# Altium integrated library texas.IntLib: 169 symbols (part 1 of 5)
Pins are listed as number, name and electrical type; pins without a type are passive.

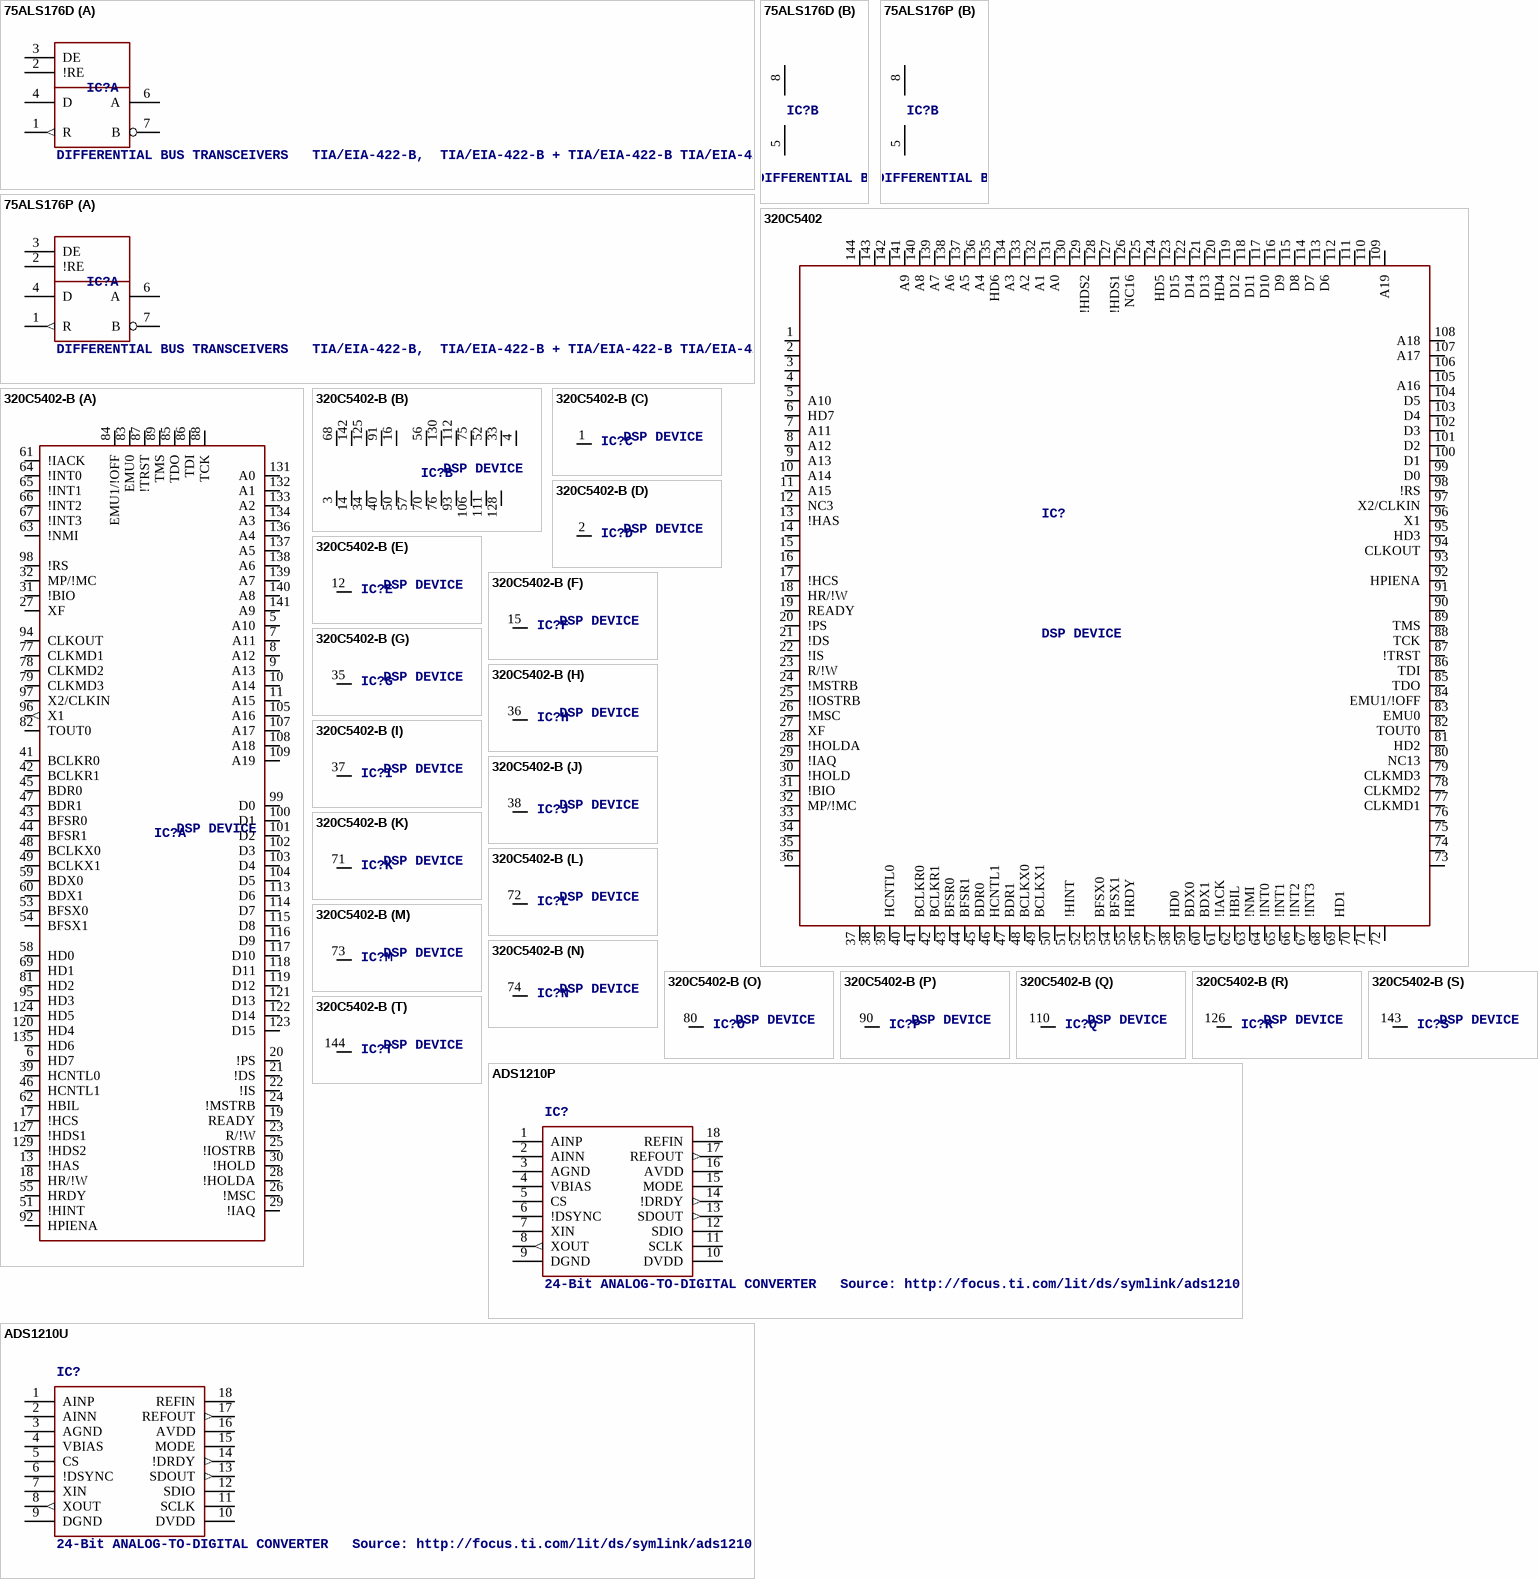
[diagram p0: symbols 75ALS176D to ADS1210U]

## 75ALS176D
designator IC?, comment DIFFERENTIAL BUS TRANSCEIVERS   TIA/EIA-422-B,  TIA/EIA-422-B + TIA/EIA-422-B TIA/EIA-422-B Operate at Data Rates up to 35 Mbaud Source: http://focus.ti.com/lit/ds/symlink/sn65als176.pdf
MPN: SN75ALS176D; MPN: SN75ALS176AD; MPN: SN75ALS176BD; MF: TEXAS INSTRUMENTS; OC_FARNELL: 9593020; OC_NEWARK: 08F8011; OC_FARNELL: 1410742; OC_NEWARK: 76C5099; OC_FARNELL: 9593012; OC_NEWARK: 35K0833
footprint SO-08
part A pins: 1 R (out), 2 !RE, 3 DE, 4 D, 6 A, 7 B
part B pins: 5 GND (power), 8 VCC (power)

## 75ALS176P
designator IC?, comment DIFFERENTIAL BUS TRANSCEIVERS   TIA/EIA-422-B,  TIA/EIA-422-B + TIA/EIA-422-B TIA/EIA-422-B Operate at Data Rates up to 35 Mbaud Source: http://focus.ti.com/lit/ds/symlink/sn65als176.pdf
MPN: SN75ALS176P; MF: TEXAS INSTRUMENTS; OC_FARNELL: 1103021; OC_NEWARK: 60K6915
footprint DIL08
part A pins: 1 R (out), 2 !RE, 3 DE, 4 D, 6 A, 7 B
part B pins: 5 GND (power), 8 VCC (power)

## 320C5402
designator IC?, comment DSP DEVICE
OC_FARNELL: unknown; OC_NEWARK: unknown
footprint PQFP144
pins: 1 NC1, 2 NC2, 3 VSS@1 (power), 4 DVDD@1 (power), 5 A10, 6 HD7, 7 A11, 8 A12, 9 A13, 10 A14, 11 A15, 12 NC3, 13 !HAS, 14 VSS@2 (power), 15 NC4, 16 CVDD@1 (power), 17 !HCS, 18 HR/!W, 19 READY, 20 !PS, 21 !DS, 22 !IS, 23 R/!W, 24 !MSTRB, 25 !IOSTRB, 26 !MSC, 27 XF, 28 !HOLDA, 29 !IAQ, 30 !HOLD, 31 !BIO, 32 MP/!MC, 33 DVDD@2 (power), 34 VSS@3 (power), 35 NC5, 36 NC6, 37 NC7, 38 NC8, 39 HCNTL0, 40 VSS@4 (power), 41 BCLKR0, 42 BCLKR1, 43 BFSR0, 44 BFSR1, 45 BDR0, 46 HCNTL1, 47 BDR1, 48 BCLKX0, 49 BCLKX1, 50 VSS@5 (power), 51 !HINT, 52 CVDD@2 (power), 53 BFSX0, 54 BFSX1, 55 HRDY, 56 DVDD@3 (power), 57 VSS@6 (power), 58 HD0, 59 BDX0, 60 BDX1, 61 !IACK, 62 HBIL, 63 !NMI, 64 !INT0, 65 !INT1, 66 !INT2, 67 !INT3, 68 CVDD@3 (power), 69 HD1, 70 VSS@7 (power), 71 NC9, 72 NC10, 73 NC11, 74 NC12, 75 DVDD@4 (power), 76 VSS@8 (power), 77 CLKMD1, 78 CLKMD2, 79 CLKMD3, 80 NC13, 81 HD2, 82 TOUT0, 83 EMU0, 84 EMU1/!OFF, 85 TDO, 86 TDI, 87 !TRST, 88 TCK, 89 TMS, 90 NC14, 91 CVDD@4 (power), 92 HPIENA, 93 VSS@9 (power), 94 CLKOUT, 95 HD3, 96 X1, 97 X2/CLKIN, 98 !RS, 99 D0, 100 D1, 101 D2, 102 D3, 103 D4, 104 D5, 105 A16, 106 VSS@10 (power), 107 A17, 108 A18, 109 A19, 110 NC15, 111 VSS@11 (power), 112 DVDD@5 (power), 113 D6, 114 D7, 115 D8, 116 D9, 117 D10, 118 D11, 119 D12, 120 HD4, 121 D13, 122 D14, 123 D15, 124 HD5, 125 CVDD@5 (power), 126 NC16, 127 !HDS1, 128 VSS@12 (power), 129 !HDS2, 130 DVDD@6 (power), 131 A0, 132 A1, 133 A2, 134 A3, 135 HD6, 136 A4, 137 A5, 138 A6, 139 A7, 140 A8, 141 A9, 142 CVDD@6 (power), 143 NC17, 144 NC18

## 320C5402-B
designator IC?, comment DSP DEVICE
OC_FARNELL: unknown; OC_NEWARK: unknown
footprint PQFP144
part A pins: 5 A10 (hiz), 6 HD7 (hiz), 7 A11 (hiz), 8 A12 (hiz), 9 A13 (hiz), 10 A14 (hiz), 11 A15 (hiz), 13 !HAS, 17 !HCS, 18 HR/!W, 19 READY, 20 !PS (hiz), 21 !DS (hiz), 22 !IS (hiz), 23 R/!W (hiz), 24 !MSTRB (hiz), 25 !IOSTRB (hiz), 26 !MSC (hiz), 27 XF (hiz), 28 !HOLDA (hiz), 29 !IAQ (hiz), 30 !HOLD, 31 !BIO, 32 MP/!MC, 39 HCNTL0, 41 BCLKR0 (hiz), 42 BCLKR1 (hiz), 43 BFSR0 (hiz), 44 BFSR1 (hiz), 45 BDR0, 46 HCNTL1, 47 BDR1, 48 BCLKX0 (hiz), 49 BCLKX1 (hiz), 51 !HINT (hiz), 53 BFSX0 (hiz), 54 BFSX1 (hiz), 55 HRDY (hiz), 58 HD0 (hiz), 59 BDX0 (hiz), 60 BDX1 (hiz), 61 !IACK (hiz), 62 HBIL, 63 !NMI, 64 !INT0, 65 !INT1, 66 !INT2, 67 !INT3, 69 HD1 (hiz), 77 CLKMD1, 78 CLKMD2, 79 CLKMD3, 81 HD2 (hiz), 82 TOUT0 (hiz), 83 EMU0 (hiz), 84 EMU1/!OFF (hiz), 85 TDO (hiz), 86 TDI, 87 !TRST, 88 TCK, 89 TMS, 92 HPIENA, 94 CLKOUT (hiz), 95 HD3 (hiz), 96 X1 (out), 97 X2/CLKIN, 98 !RS, 99 D0 (hiz), 100 D1 (hiz), 101 D2 (hiz), 102 D3 (hiz), 103 D4 (hiz), 104 D5 (hiz), 105 A16 (hiz), 107 A17 (hiz), 108 A18 (hiz), 109 A19 (hiz), 113 D6 (hiz), 114 D7 (hiz), 115 D8 (hiz), 116 D9 (hiz), 117 D10 (hiz), 118 D11 (hiz), 119 D12 (hiz), 120 HD4 (hiz), 121 D13 (hiz), 122 D14 (hiz), 123 D15 (hiz), 124 HD5 (hiz), 127 !HDS1, 129 !HDS2, 131 A0 (hiz), 132 A1 (hiz), 133 A2 (hiz), 134 A3 (hiz), 135 HD6 (hiz), 136 A4 (hiz), 137 A5 (hiz), 138 A6 (hiz), 139 A7 (hiz), 140 A8 (hiz), 141 A9 (hiz)
part B pins: 3 VSS@1 (power), 4 DVDD@1 (power), 14 VSS@2 (power), 16 CVDD@1 (power), 33 DVDD@2 (power), 34 VSS@3 (power), 40 VSS@4 (power), 50 VSS@5 (power), 52 CVDD@2 (power), 56 DVDD@3 (power), 57 VSS@6 (power), 68 CVDD@3 (power), 70 VSS@7 (power), 75 DVDD@4 (power), 76 VSS@8 (power), 91 CVDD@4 (power), 93 VSS@9 (power), 106 VSS@10 (power), 111 VSS@11 (power), 112 DVDD@5 (power), 125 CVDD@5 (power), 128 VSS@12 (power), 130 DVDD@6 (power), 142 CVDD@6 (power)
part C pins: 1 NC
part D pins: 2 NC
part E pins: 12 NC
part F pins: 15 NC
part G pins: 35 NC
part H pins: 36 NC
part I pins: 37 NC
part J pins: 38 NC
part K pins: 71 NC
part L pins: 72 NC
part M pins: 73 NC
part N pins: 74 NC
part O pins: 80 NC
part P pins: 90 NC
part Q pins: 110 NC
part R pins: 126 NC
part S pins: 143 NC
part T pins: 144 NC

## ADS1210P
designator IC?, comment 24-Bit ANALOG-TO-DIGITAL CONVERTER   Source: http://focus.ti.com/lit/ds/symlink/ads1210.pdf
MPN: ADS1210P; MF: TEXAS INSTRUMENTS; OC_FARNELL: 1312336; OC_NEWARK: 96K4580
footprint DIL18
pins: 1 AINP, 2 AINN, 3 AGND (power), 4 VBIAS, 5 CS, 6 !DSYNC, 7 XIN, 8 XOUT (out), 9 DGND (power), 10 DVDD (power), 11 SCLK, 12 SDIO, 13 SDOUT (out), 14 !DRDY (out), 15 MODE, 16 AVDD (power), 17 REFOUT (out), 18 REFIN

## ADS1210U
designator IC?, comment 24-Bit ANALOG-TO-DIGITAL CONVERTER   Source: http://focus.ti.com/lit/ds/symlink/ads1210.pdf
MPN: ADS1210U; MF: TEXAS INSTRUMENTS; OC_FARNELL: 1295983; OC_NEWARK: 74K3627
footprint SO-18DW
pins: 1 AINP, 2 AINN, 3 AGND (power), 4 VBIAS, 5 CS, 6 !DSYNC, 7 XIN, 8 XOUT (out), 9 DGND (power), 10 DVDD (power), 11 SCLK, 12 SDIO, 13 SDOUT (out), 14 !DRDY (out), 15 MODE, 16 AVDD (power), 17 REFOUT (out), 18 REFIN

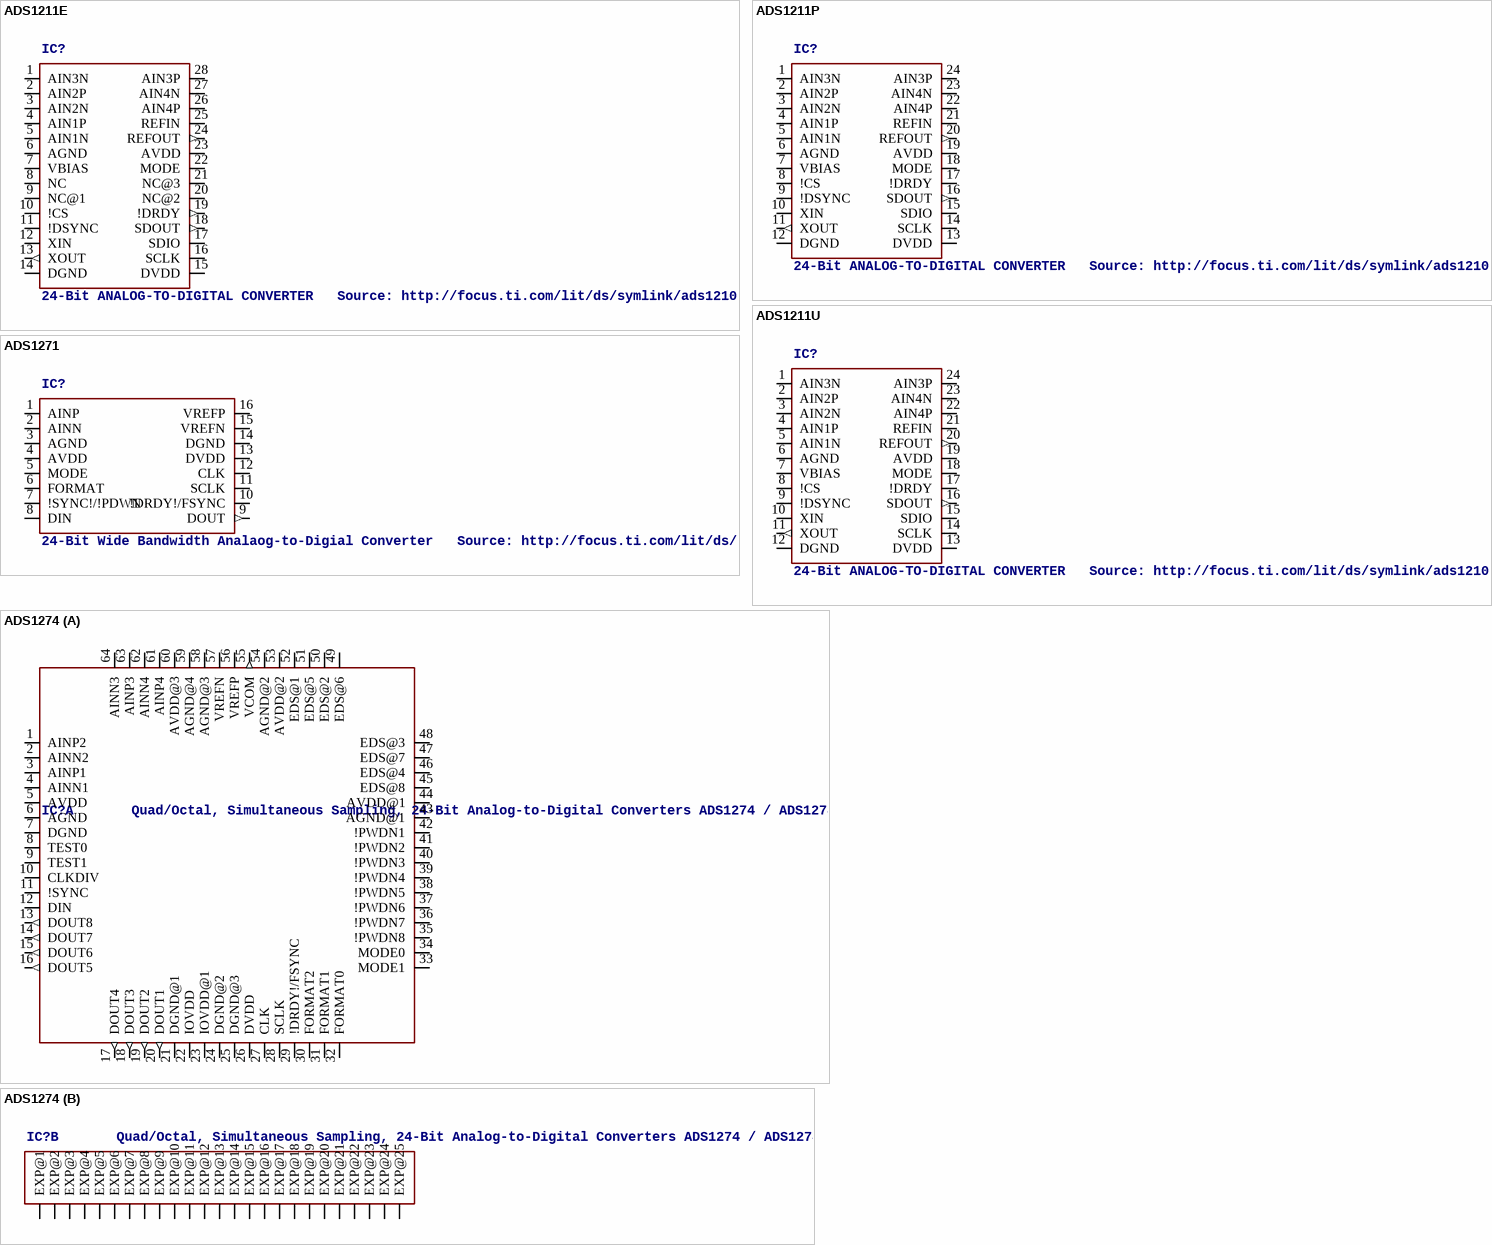
[diagram p1: symbols ADS1211E to ADS1274]

## ADS1211E
designator IC?, comment 24-Bit ANALOG-TO-DIGITAL CONVERTER   Source: http://focus.ti.com/lit/ds/symlink/ads1210.pdf
MPN: ADS1211E; MF: TEXAS INSTRUMENT CONNECTORS; OC_FARNELL: unknown; OC_NEWARK: 74C6976
footprint DB_R-PDSO-G28
pins: 1 AIN3N, 2 AIN2P, 3 AIN2N, 4 AIN1P, 5 AIN1N, 6 AGND (power), 7 VBIAS, 8 NC, 9 NC@1, 10 !CS, 11 !DSYNC, 12 XIN, 13 XOUT (out), 14 DGND (power), 15 DVDD (power), 16 SCLK, 17 SDIO, 18 SDOUT (out), 19 !DRDY (out), 20 NC@2, 21 NC@3, 22 MODE, 23 AVDD (power), 24 REFOUT (out), 25 REFIN, 26 AIN4P, 27 AIN4N, 28 AIN3P

## ADS1211P
designator IC?, comment 24-Bit ANALOG-TO-DIGITAL CONVERTER   Source: http://focus.ti.com/lit/ds/symlink/ads1210.pdf
MPN: ADS1211P; MF: TEXAS INSTRUMENTS; OC_FARNELL: 1219430; OC_NEWARK: 96K2329
footprint PDIP-T24
pins: 1 AIN3N, 2 AIN2P, 3 AIN2N, 4 AIN1P, 5 AIN1N, 6 AGND (power), 7 VBIAS, 8 !CS, 9 !DSYNC, 10 XIN, 11 XOUT (out), 12 DGND (power), 13 DVDD (power), 14 SCLK, 15 SDIO, 16 SDOUT (out), 17 !DRDY, 18 MODE, 19 AVDD (power), 20 REFOUT (out), 21 REFIN, 22 AIN4P, 23 AIN4N, 24 AIN3P

## ADS1211U
designator IC?, comment 24-Bit ANALOG-TO-DIGITAL CONVERTER   Source: http://focus.ti.com/lit/ds/symlink/ads1210.pdf
MPN: ADS1211U; MF: TEXAS INSTRUMENTS; OC_FARNELL: 9324070; OC_NEWARK: 35C1513
footprint PW_R-PDSO-G24
pins: 1 AIN3N, 2 AIN2P, 3 AIN2N, 4 AIN1P, 5 AIN1N, 6 AGND (power), 7 VBIAS, 8 !CS, 9 !DSYNC, 10 XIN, 11 XOUT (out), 12 DGND (power), 13 DVDD (power), 14 SCLK, 15 SDIO, 16 SDOUT (out), 17 !DRDY, 18 MODE, 19 AVDD (power), 20 REFOUT (out), 21 REFIN, 22 AIN4P, 23 AIN4N, 24 AIN3P

## ADS1271
designator IC?, comment 24-Bit Wide Bandwidth Analaog-to-Digial Converter   Source: http://focus.ti.com/lit/ds/symlink/ads1271.pdf
MPN: ADS1271IPWR; MF: TEXAS INSTRUMENT CONNECTORS; OC_FARNELL: 9968865; OC_NEWARK: 73J8186
footprint TSSOP16
pins: 1 AINP, 2 AINN, 3 AGND (power), 4 AVDD (power), 5 MODE, 6 FORMAT, 7 !SYNC!/!PDWN, 8 DIN, 9 DOUT (out), 10 !DRDY!/FSYNC, 11 SCLK, 12 CLK, 13 DVDD, 14 DGND, 15 VREFN, 16 VREFP

## ADS1274
designator IC?, comment Quad/Octal, Simultaneous Sampling, 24-Bit Analog-to-Digital Converters ADS1274 / ADS1278    Source: http://focus.ti.com/lit/ds/symlink/ads1274.pdf
MPN: ADS1274IPAPT; OC_FARNELL: 1603418; OC_NEWARK: 50M8809
footprint HTQFP-64-PAP
part A pins: 1 AINP2, 2 AINN2, 3 AINP1, 4 AINN1, 5 AVDD (power), 6 AGND (power), 7 DGND (power), 8 TEST0, 9 TEST1, 10 CLKDIV, 11 !SYNC, 12 DIN, 13 DOUT8 (out), 14 DOUT7 (out), 15 DOUT6 (out), 16 DOUT5 (out), 17 DOUT4 (out), 18 DOUT3 (out), 19 DOUT2 (out), 20 DOUT1 (out), 21 DGND@1 (power), 22 IOVDD (power), 23 IOVDD@1 (power), 24 DGND@2 (power), 25 DGND@3 (power), 26 DVDD (power), 27 CLK, 28 SCLK, 29 !DRDY!/FSYNC, 30 FORMAT2, 31 FORMAT1, 32 FORMAT0, 33 MODE1, 34 MODE0, 35 !PWDN8, 36 !PWDN7, 37 !PWDN6, 38 !PWDN5, 39 !PWDN4, 40 !PWDN3, 41 !PWDN2, 42 !PWDN1, 43 AGND@1 (power), 44 AVDD@1 (power), 45 EDS@8, 46 EDS@4, 47 EDS@7, 48 EDS@3, 49 EDS@6, 50 EDS@2, 51 EDS@5, 52 EDS@1, 53 AVDD@2 (power), 54 AGND@2 (power), 55 VCOM (out), 56 VREFP, 57 VREFN, 58 AGND@3 (power), 59 AGND@4 (power), 60 AVDD@3 (power), 61 AINP4, 62 AINN4, 63 AINP3, 64 AINN3
part B pins: EXP1 EXP@1, EXP2 EXP@2, EXP3 EXP@3, EXP4 EXP@4, EXP5 EXP@5, EXP6 EXP@6, EXP7 EXP@7, EXP8 EXP@8, EXP9 EXP@9, EXP10 EXP@10, EXP11 EXP@11, EXP12 EXP@12, EXP13 EXP@13, EXP14 EXP@14, EXP15 EXP@15, EXP16 EXP@16, EXP17 EXP@17, EXP18 EXP@18, EXP19 EXP@19, EXP20 EXP@20, EXP21 EXP@21, EXP22 EXP@22, EXP23 EXP@23, EXP24 EXP@24, EXP25 EXP@25

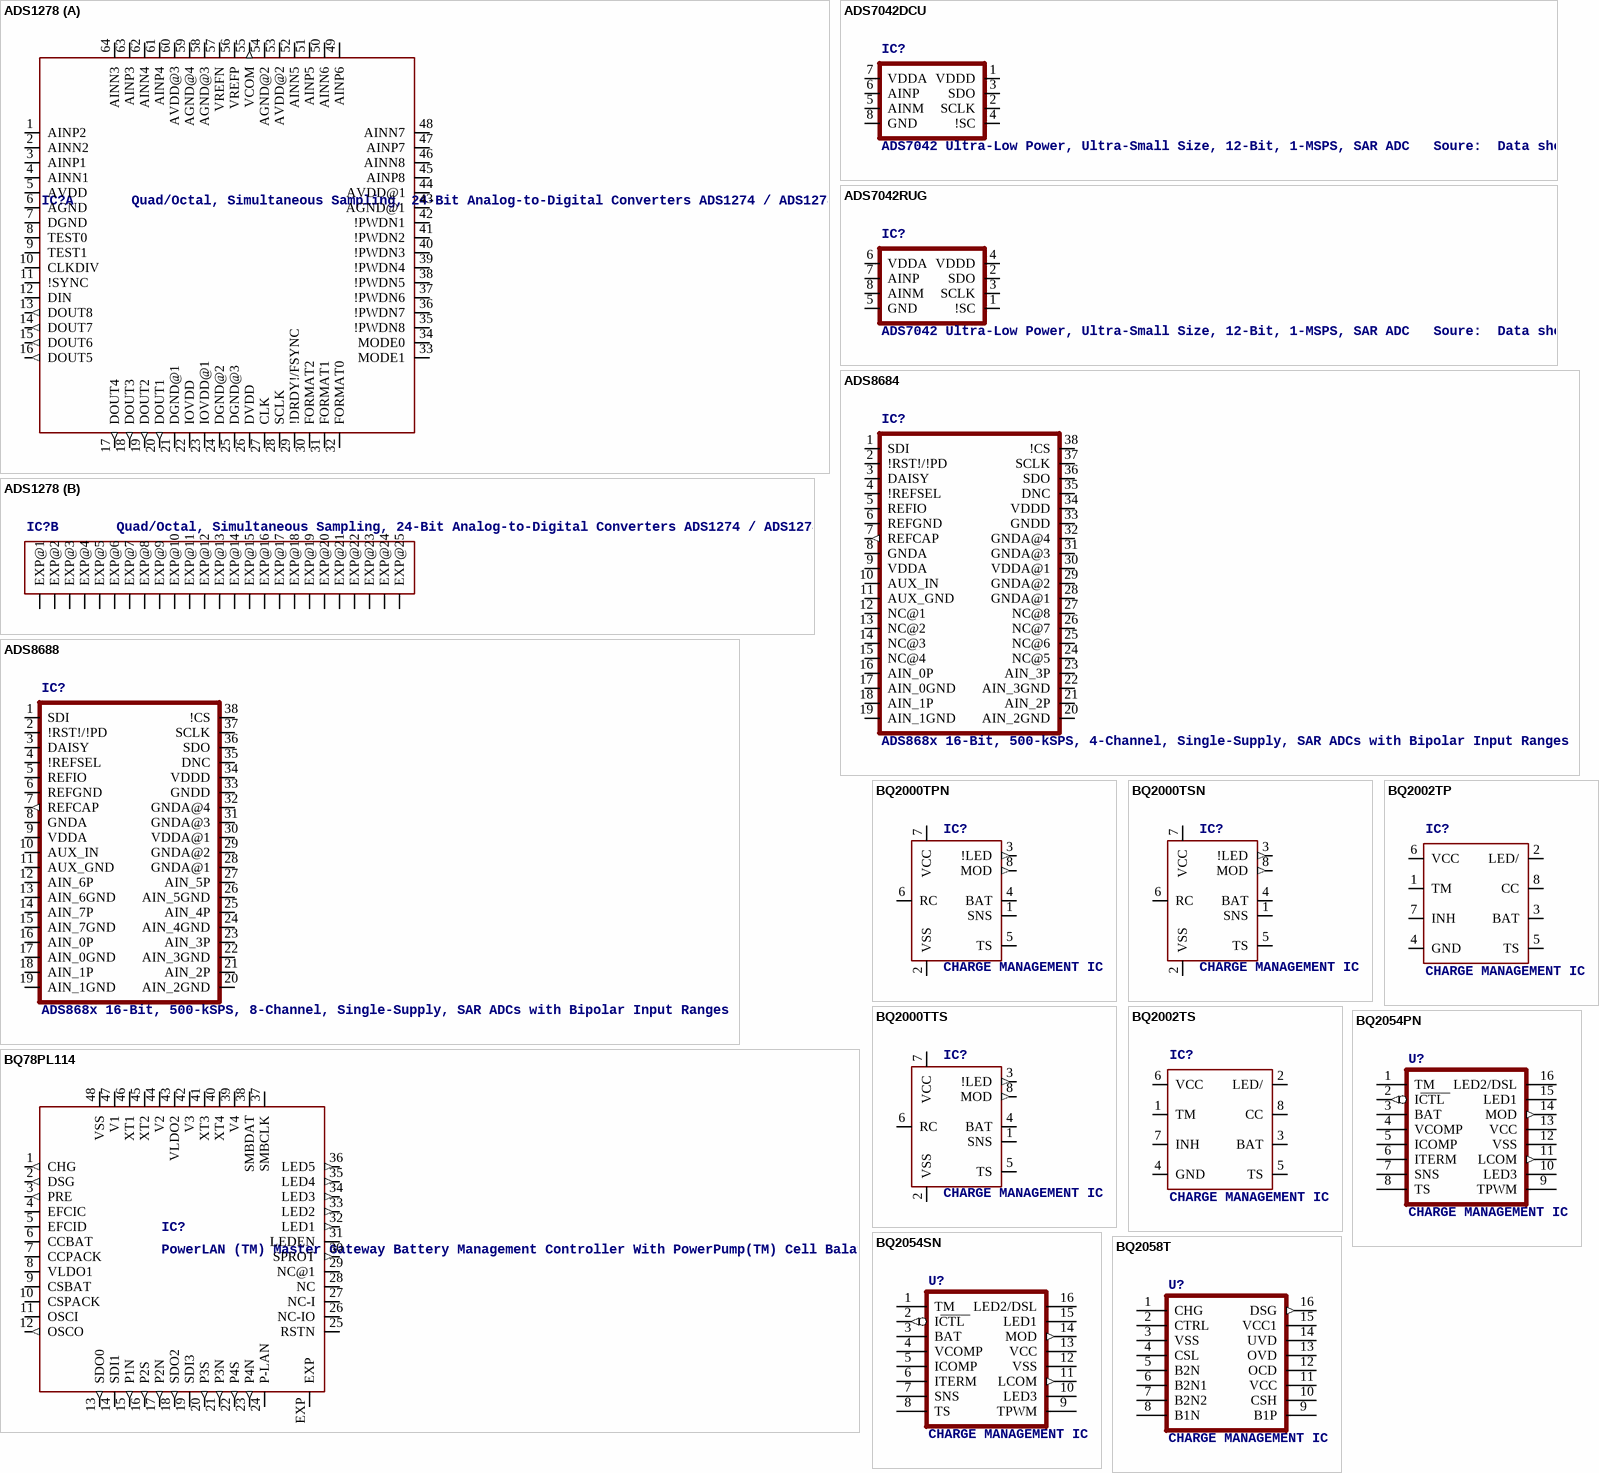
[diagram p2: symbols ADS1278 to BQ2058T]

## ADS1278
designator IC?, comment Quad/Octal, Simultaneous Sampling, 24-Bit Analog-to-Digital Converters ADS1274 / ADS1278    Auto generated by make-symbol-device-package-bsdl.ulp Rev. 29 Source: http://focus.ti.com/lit/ds/symlink/ads1274.pdf
MPN: ADS1278IPAPT; OC_FARNELL: 1603419; OC_NEWARK: 50M8811
footprint HTQFP-64-PAP
part A pins: 1 AINP2, 2 AINN2, 3 AINP1, 4 AINN1, 5 AVDD (power), 6 AGND (power), 7 DGND (power), 8 TEST0, 9 TEST1, 10 CLKDIV, 11 !SYNC, 12 DIN, 13 DOUT8 (out), 14 DOUT7 (out), 15 DOUT6 (out), 16 DOUT5 (out), 17 DOUT4 (out), 18 DOUT3 (out), 19 DOUT2 (out), 20 DOUT1 (out), 21 DGND@1 (power), 22 IOVDD (power), 23 IOVDD@1 (power), 24 DGND@2 (power), 25 DGND@3 (power), 26 DVDD (power), 27 CLK, 28 SCLK, 29 !DRDY!/FSYNC, 30 FORMAT2, 31 FORMAT1, 32 FORMAT0, 33 MODE1, 34 MODE0, 35 !PWDN8, 36 !PWDN7, 37 !PWDN6, 38 !PWDN5, 39 !PWDN4, 40 !PWDN3, 41 !PWDN2, 42 !PWDN1, 43 AGND@1 (power), 44 AVDD@1 (power), 45 AINP8, 46 AINN8, 47 AINP7, 48 AINN7, 49 AINP6, 50 AINN6, 51 AINP5, 52 AINN5, 53 AVDD@2 (power), 54 AGND@2 (power), 55 VCOM (out), 56 VREFP, 57 VREFN, 58 AGND@3 (power), 59 AGND@4 (power), 60 AVDD@3 (power), 61 AINP4, 62 AINN4, 63 AINP3, 64 AINN3
part B pins: EXP1 EXP@1, EXP2 EXP@2, EXP3 EXP@3, EXP4 EXP@4, EXP5 EXP@5, EXP6 EXP@6, EXP7 EXP@7, EXP8 EXP@8, EXP9 EXP@9, EXP10 EXP@10, EXP11 EXP@11, EXP12 EXP@12, EXP13 EXP@13, EXP14 EXP@14, EXP15 EXP@15, EXP16 EXP@16, EXP17 EXP@17, EXP18 EXP@18, EXP19 EXP@19, EXP20 EXP@20, EXP21 EXP@21, EXP22 EXP@22, EXP23 EXP@23, EXP24 EXP@24, EXP25 EXP@25

## ADS7042DCU
designator IC?, comment ADS7042 Ultra-Low Power, Ultra-Small Size, 12-Bit, 1-MSPS, SAR ADC   Soure:  Data sheet
footprint DCU_(R-PDSO-G8)
pins: 1 VDDD (power), 2 SCLK, 3 SDO, 4 !SC, 5 AINM, 6 AINP, 7 VDDA (power), 8 GND (power)

## ADS7042RUG
designator IC?, comment ADS7042 Ultra-Low Power, Ultra-Small Size, 12-Bit, 1-MSPS, SAR ADC   Soure:  Data sheet
footprint RUG_(R-PQFP-N8)
pins: 1 !SC, 2 SDO, 3 SCLK, 4 VDDD (power), 5 GND (power), 6 VDDA (power), 7 AINP, 8 AINM

## ADS8684
designator IC?, comment ADS868x 16-Bit, 500-kSPS, 4-Channel, Single-Supply, SAR ADCs with Bipolar Input Ranges   Source:  Data sheet
footprint DBT_R-PDSO-G38
pins: 1 SDI, 2 !RST!/!PD, 3 DAISY, 4 !REFSEL, 5 REFIO, 6 REFGND (power), 7 REFCAP (out), 8 GNDA (power), 9 VDDA (power), 10 AUX_IN, 11 AUX_GND, 12 NC@1, 13 NC@2, 14 NC@3, 15 NC@4, 16 AIN_0P, 17 AIN_0GND, 18 AIN_1P, 19 AIN_1GND, 20 AIN_2GND, 21 AIN_2P, 22 AIN_3GND, 23 AIN_3P, 24 NC@5, 25 NC@6, 26 NC@7, 27 NC@8, 28 GNDA@1 (power), 29 GNDA@2 (power), 30 VDDA@1 (power), 31 GNDA@3 (power), 32 GNDA@4 (power), 33 GNDD (power), 34 VDDD (power), 35 DNC, 36 SDO, 37 SCLK, 38 !CS

## ADS8688
designator IC?, comment ADS868x 16-Bit, 500-kSPS, 8-Channel, Single-Supply, SAR ADCs with Bipolar Input Ranges   Source:  Data sheet
footprint DBT_R-PDSO-G38
pins: 1 SDI, 2 !RST!/!PD, 3 DAISY, 4 !REFSEL, 5 REFIO, 6 REFGND (power), 7 REFCAP (out), 8 GNDA (power), 9 VDDA (power), 10 AUX_IN, 11 AUX_GND, 12 AIN_6P, 13 AIN_6GND, 14 AIN_7P, 15 AIN_7GND, 16 AIN_0P, 17 AIN_0GND, 18 AIN_1P, 19 AIN_1GND, 20 AIN_2GND, 21 AIN_2P, 22 AIN_3GND, 23 AIN_3P, 24 AIN_4GND, 25 AIN_4P, 26 AIN_5GND, 27 AIN_5P, 28 GNDA@1 (power), 29 GNDA@2 (power), 30 VDDA@1 (power), 31 GNDA@3 (power), 32 GNDA@4 (power), 33 GNDD (power), 34 VDDD (power), 35 DNC, 36 SDO, 37 SCLK, 38 !CS

## BQ78PL114
designator IC?, comment PowerLAN (TM) Master Gateway Battery Management Controller With PowerPump(TM) Cell Balancing Technology   Auto generated by make-symbol-device-package-bsdl.ulp Rev. 35 Source:  Datasheet
MPN: BQ78PL114RGZR; OC_FARNELL: 1684746; OC_NEWARK: 12P8640
footprint P-QFP48-7X7MM
pins: 1 CHG (out), 2 DSG (out), 3 PRE (out), 4 EFCIC, 5 EFCID, 6 CCBAT, 7 CCPACK, 8 VLDO1 (power), 9 CSBAT, 10 CSPACK, 11 OSCI, 12 OSCO (out), 13 SDO0 (out), 14 SDI1, 15 P1N (out), 16 P2S (out), 17 P2N (out), 18 SDO2 (out), 19 SDI3, 20 P3S (out), 21 P3N (out), 22 P4S (out), 23 P4N (out), 24 P-LAN, 25 RSTN, 26 NC-IO, 27 NC-I, 28 NC, 29 NC@1, 30 SPROT (out), 31 LEDEN, 32 LED1 (out), 33 LED2 (out), 34 LED3 (out), 35 LED4 (out), 36 LED5 (out), 37 SMBCLK, 38 SMBDAT, 39 V4, 40 XT4, 41 XT3, 42 V3, 43 VLDO2 (power), 44 V2, 45 XT2, 46 XT1, 47 V1, 48 VSS, EXP

## BQ2000TPN
designator IC?, comment CHARGE MANAGEMENT IC
MPN: BQ2000TPN-B5; MF: TEXAS INSTRUMENT CONNECTORS; OC_FARNELL: unknown; OC_NEWARK: 74C7505
footprint DIL08
pins: 1 SNS, 2 VSS (power), 3 !LED (out), 4 BAT, 5 TS, 6 RC, 7 VCC, 8 MOD (out)

## BQ2000TSN
designator IC?, comment CHARGE MANAGEMENT IC
MPN: BQ2000TSN-B5; MF: TEXAS INSTRUMENT CONNECTORS; OC_FARNELL: 1212295; OC_NEWARK: 74C7508
footprint SO-08
pins: 1 SNS, 2 VSS (power), 3 !LED (out), 4 BAT, 5 TS, 6 RC, 7 VCC, 8 MOD (out)

## BQ2000TTS
designator IC?, comment CHARGE MANAGEMENT IC
OC_FARNELL: unknown; OC_NEWARK: unknown
footprint TSSOP8
pins: 1 SNS, 2 VSS (power), 3 !LED (out), 4 BAT, 5 TS, 6 RC, 7 VCC, 8 MOD (out)

## BQ2002TP
designator IC?, comment CHARGE MANAGEMENT IC
MPN: BQ2002TPN; MF: TEXAS INSTRUMENT CONNECTORS; OC_FARNELL: 8409668; OC_NEWARK: 74C7526
footprint DIL08
pins: 1 TM, 2 LED/ (oc), 3 BAT, 4 GND (power), 5 TS, 6 VCC (power), 7 INH, 8 CC (oc)

## BQ2002TS
designator IC?, comment CHARGE MANAGEMENT IC
MPN: BQ2002TSN; MF: TEXAS INSTRUMENTS; OC_FARNELL: 1564910; OC_NEWARK: 74C7527
footprint SO-08
pins: 1 TM, 2 LED/ (oc), 3 BAT, 4 GND (power), 5 TS, 6 VCC (power), 7 INH, 8 CC (oc)

## BQ2054PN
designator U?, comment CHARGE MANAGEMENT IC
MPN: BQ2054PN; MF: TEXAS INSTRUMENT CONNECTORS; OC_FARNELL: 8407789; OC_NEWARK: 74C7582
footprint DIL16
pins: 1 TM, 2 ICTL (out), 3 BAT, 4 VCOMP, 5 ICOMP, 6 ITERM, 7 SNS, 8 TS, 9 TPWM, 10 LED3 (hiz), 11 LCOM (out), 12 VSS (power), 13 VCC (power), 14 MOD (out), 15 LED1 (hiz), 16 LED2/DSL (hiz)

## BQ2054SN
designator U?, comment CHARGE MANAGEMENT IC
MPN: BQ2054SN; MF: TEXAS INSTRUMENT CONNECTORS; OC_FARNELL: unknown; OC_NEWARK: 74C7583
footprint SO-16
pins: 1 TM, 2 ICTL (out), 3 BAT, 4 VCOMP, 5 ICOMP, 6 ITERM, 7 SNS, 8 TS, 9 TPWM, 10 LED3 (hiz), 11 LCOM (out), 12 VSS (power), 13 VCC (power), 14 MOD (out), 15 LED1 (hiz), 16 LED2/DSL (hiz)

## BQ2058T
designator U?, comment CHARGE MANAGEMENT IC
OC_FARNELL: unknown; OC_NEWARK: unknown
footprint SO-16
pins: 1 CHG (hiz), 2 CTRL, 3 VSS (power), 4 CSL, 5 B2N, 6 B2N1, 7 B2N2, 8 B1N, 9 B1P, 10 CSH, 11 VCC (power), 12 OCD, 13 OVD, 14 UVD, 15 VCC1 (power), 16 DSG (out)

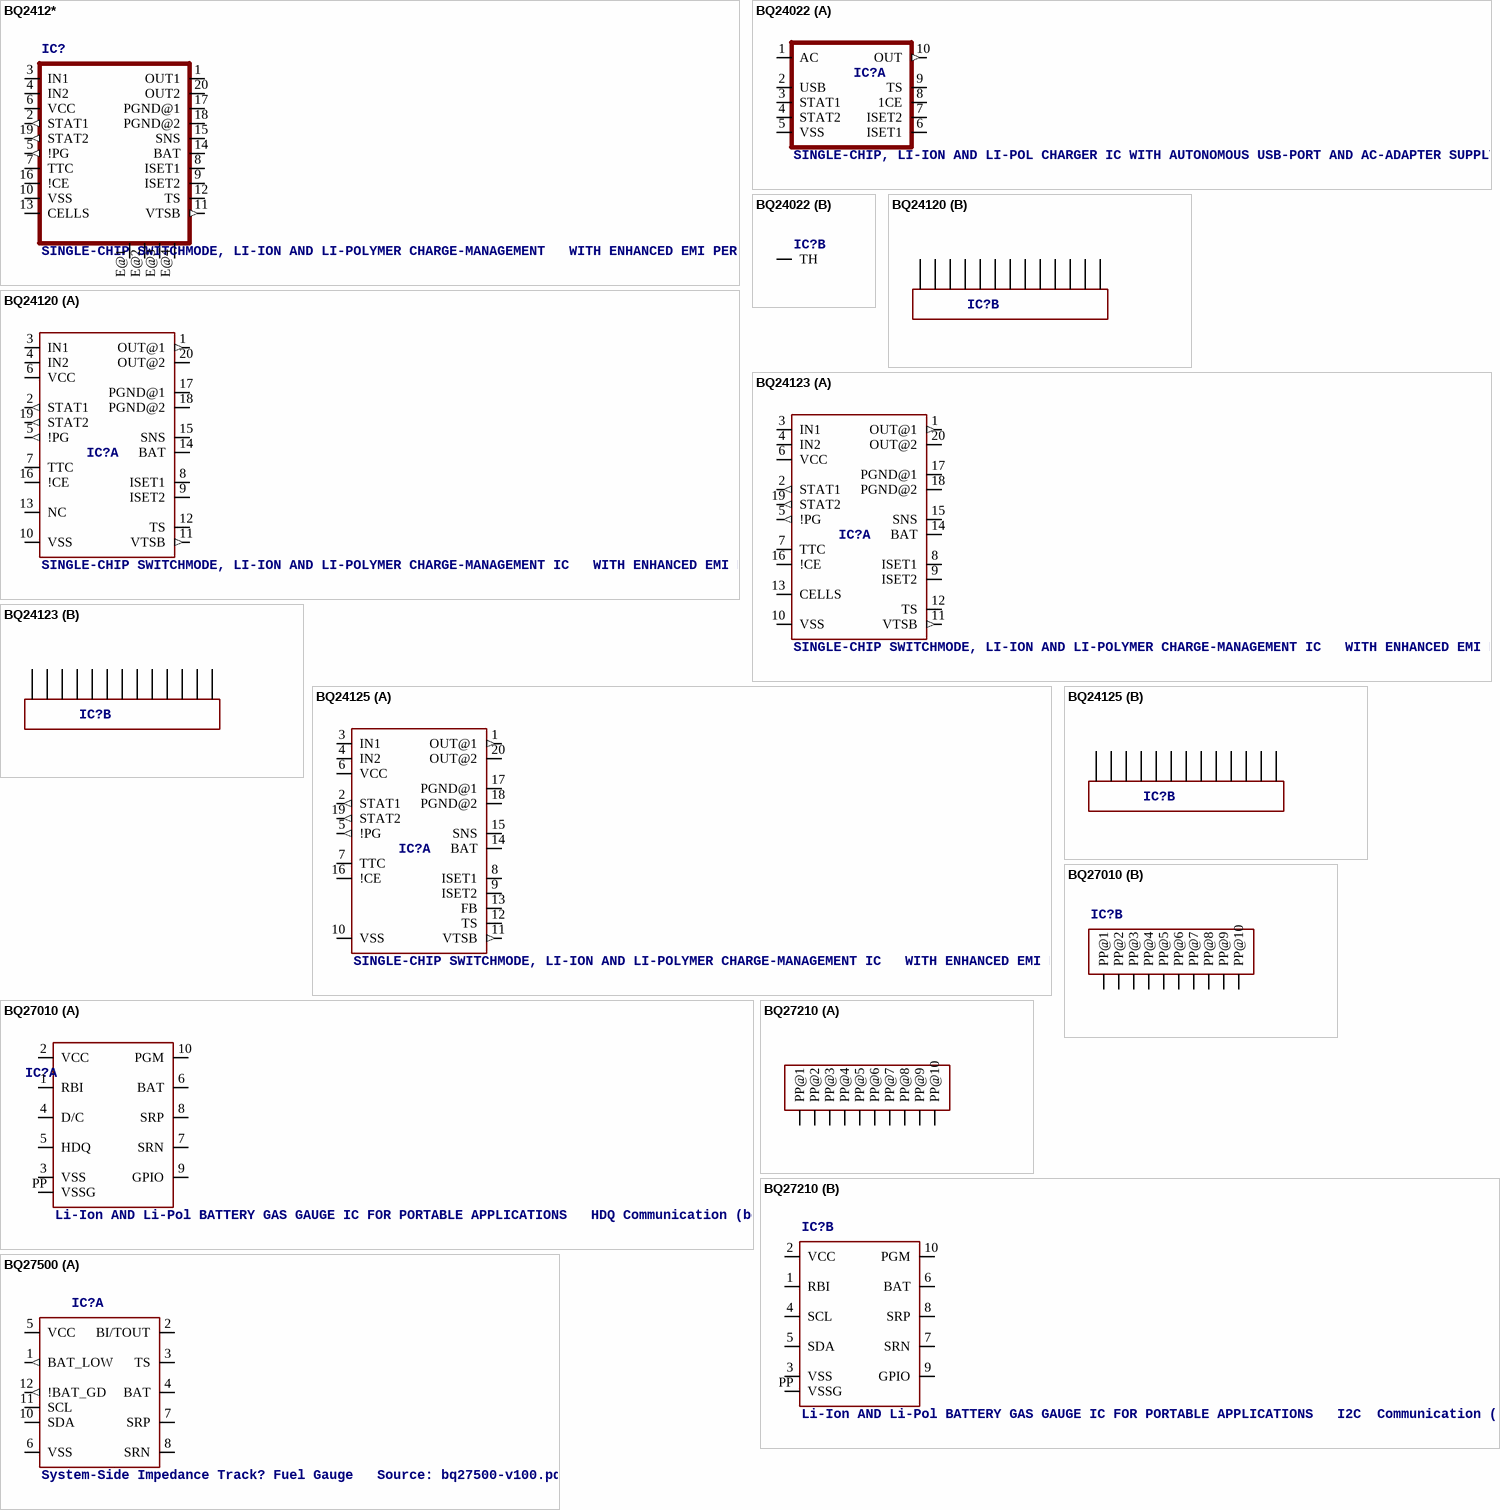
[diagram p3: symbols BQ2412* to BQ27500]

## BQ2412*
designator IC?, comment SINGLE-CHIP SWITCHMODE, LI-ION AND LI-POLYMER CHARGE-MANAGEMENT   WITH ENHANCED EMI PERFORMANCE(bqSWITCHER TM)   Source: http://focus.ti.com/lit/ds/symlink/bq24120.pdf
MPN: BQ24120RHLTG4; MPN: BQ24123RHLT; OC_FARNELL: 1230453; OC_NEWARK: 12M9386; OC_FARNELL: 1407131; OC_NEWARK: 84K0851
footprint R-PQFP-N20
pins: 1 OUT1, 2 STAT1 (out), 3 IN1, 4 IN2, 5 !PG (out), 6 VCC, 7 TTC, 8 ISET1, 9 ISET2, 10 VSS, 11 VTSB (out), 12 TS, 13 CELLS, 14 BAT, 15 SNS, 16 !CE, 17 PGND@1, 18 PGND@2, 19 STAT2 (out), 20 OUT2, E@1 EXP@1, E@2 EXP@2, E@3 EXP@3, E@4 EXP@4

## BQ24022
designator IC?, comment SINGLE-CHIP, LI-ION AND LI-POL CHARGER IC WITH AUTONOMOUS USB-PORT AND AC-ADAPTER SUPPLY MANAGEMENT (bqTINY™-II)   Source: bq24022.pdf (www.ti.com)
footprint DRC-S-PVSON-N10
part A pins: 1 AC, 2 USB, 3 STAT1, 4 STAT2, 5 VSS (power), 6 ISET1, 7 ISET2, 8 1CE, 9 TS, 10 OUT (out)
part B pins: TH

## BQ24120
designator IC?, comment SINGLE-CHIP SWITCHMODE, LI-ION AND LI-POLYMER CHARGE-MANAGEMENT IC   WITH ENHANCED EMI PERFORMANCE(bqSWITCHER) Source: www.ti.com .. TI-bq24125.pdf
MPN: BQ24120RHLTG4; OC_FARNELL: 1230453; OC_NEWARK: 12M9386
footprint QFN20_3,5X4,5
part A pins: 1 OUT@1 (out), 2 STAT1 (out), 3 IN1, 4 IN2, 5 !PG (out), 6 VCC, 7 TTC, 8 ISET1, 9 ISET2, 10 VSS (power), 11 VTSB (out), 12 TS, 13 NC, 14 BAT, 15 SNS, 16 !CE, 17 PGND@1, 18 PGND@2, 19 STAT2 (out), 20 OUT@2
part B pins: EXP 7, EXP@1 1, EXP@2 2, EXP@3 3, EXP@4 4, EXP@5 5, EXP@6 6, EXP@7 8, EXP@8 9, EXP@9 10, EXP@10 11, EXP@11 12, EXP@12 13

## BQ24123
designator IC?, comment SINGLE-CHIP SWITCHMODE, LI-ION AND LI-POLYMER CHARGE-MANAGEMENT IC   WITH ENHANCED EMI PERFORMANCE(bqSWITCHER) Source: www.ti.com .. TI-bq24125.pdf
MPN: BQ24123RHLT; OC_FARNELL: 1407131; OC_NEWARK: 84K0851
footprint QFN20_3,5X4,5
part A pins: 1 OUT@1 (out), 2 STAT1 (out), 3 IN1, 4 IN2, 5 !PG (out), 6 VCC, 7 TTC, 8 ISET1, 9 ISET2, 10 VSS (power), 11 VTSB (out), 12 TS, 13 CELLS, 14 BAT, 15 SNS, 16 !CE, 17 PGND@1, 18 PGND@2, 19 STAT2 (out), 20 OUT@2
part B pins: EXP 7, EXP@1 1, EXP@2 2, EXP@3 3, EXP@4 4, EXP@5 5, EXP@6 6, EXP@7 8, EXP@8 9, EXP@9 10, EXP@10 11, EXP@11 12, EXP@12 13

## BQ24125
designator IC?, comment SINGLE-CHIP SWITCHMODE, LI-ION AND LI-POLYMER CHARGE-MANAGEMENT IC   WITH ENHANCED EMI PERFORMANCE(bqSWITCHER) Source: www.ti.com .. TI-bq24125.pdf
MPN: BQ24125RHLR; OC_FARNELL: 1536712; OC_NEWARK: 71M2021
footprint QFN20_3,5X4,5
part A pins: 1 OUT@1 (out), 2 STAT1 (out), 3 IN1, 4 IN2, 5 !PG (out), 6 VCC, 7 TTC, 8 ISET1, 9 ISET2, 10 VSS (power), 11 VTSB (out), 12 TS, 13 FB, 14 BAT, 15 SNS, 16 !CE, 17 PGND@1, 18 PGND@2, 19 STAT2 (out), 20 OUT@2
part B pins: EXP 7, EXP@1 1, EXP@2 2, EXP@3 3, EXP@4 4, EXP@5 5, EXP@6 6, EXP@7 8, EXP@8 9, EXP@9 10, EXP@10 11, EXP@11 12, EXP@12 13

## BQ27010
designator IC?, comment Li-Ion AND Li-Pol BATTERY GAS GAUGE IC FOR PORTABLE APPLICATIONS   HDQ Communication (bqJUNIOR) Source: www.ti.com .. bq27010.pdf
MPN: BQ27010DRKR; OC_FARNELL: unknown; OC_NEWARK: 02M9376
footprint DRK_S-PDSO-N10
part A pins: 1 RBI, 2 VCC (power), 3 VSS (power), 4 D/C, 5 HDQ, 6 BAT, 7 SRN, 8 SRP, 9 GPIO, 10 PGM, PP VSSG (power)
part B pins: PP@1 (power), PP@2 (power), PP@3 (power), PP@4 (power), PP@5 (power), PP@6 (power), PP@7 (power), PP@8 (power), PP@9 (power), PP@10 (power)

## BQ27210
designator IC?, comment Li-Ion AND Li-Pol BATTERY GAS GAUGE IC FOR PORTABLE APPLICATIONS   I2C  Communication (bqJUNIOR) Source: www.ti.com .. bq27010.pdf
MPN: BQ27210DRKR; OC_FARNELL: 1534540; OC_NEWARK: 30M3431
footprint DRK_S-PDSO-N10
part A pins: PP@1 (power), PP@2 (power), PP@3 (power), PP@4 (power), PP@5 (power), PP@6 (power), PP@7 (power), PP@8 (power), PP@9 (power), PP@10 (power)
part B pins: 1 RBI, 2 VCC, 3 VSS, 4 SCL, 5 SDA, 6 BAT, 7 SRN, 8 SRP, 9 GPIO, 10 PGM, PP VSSG

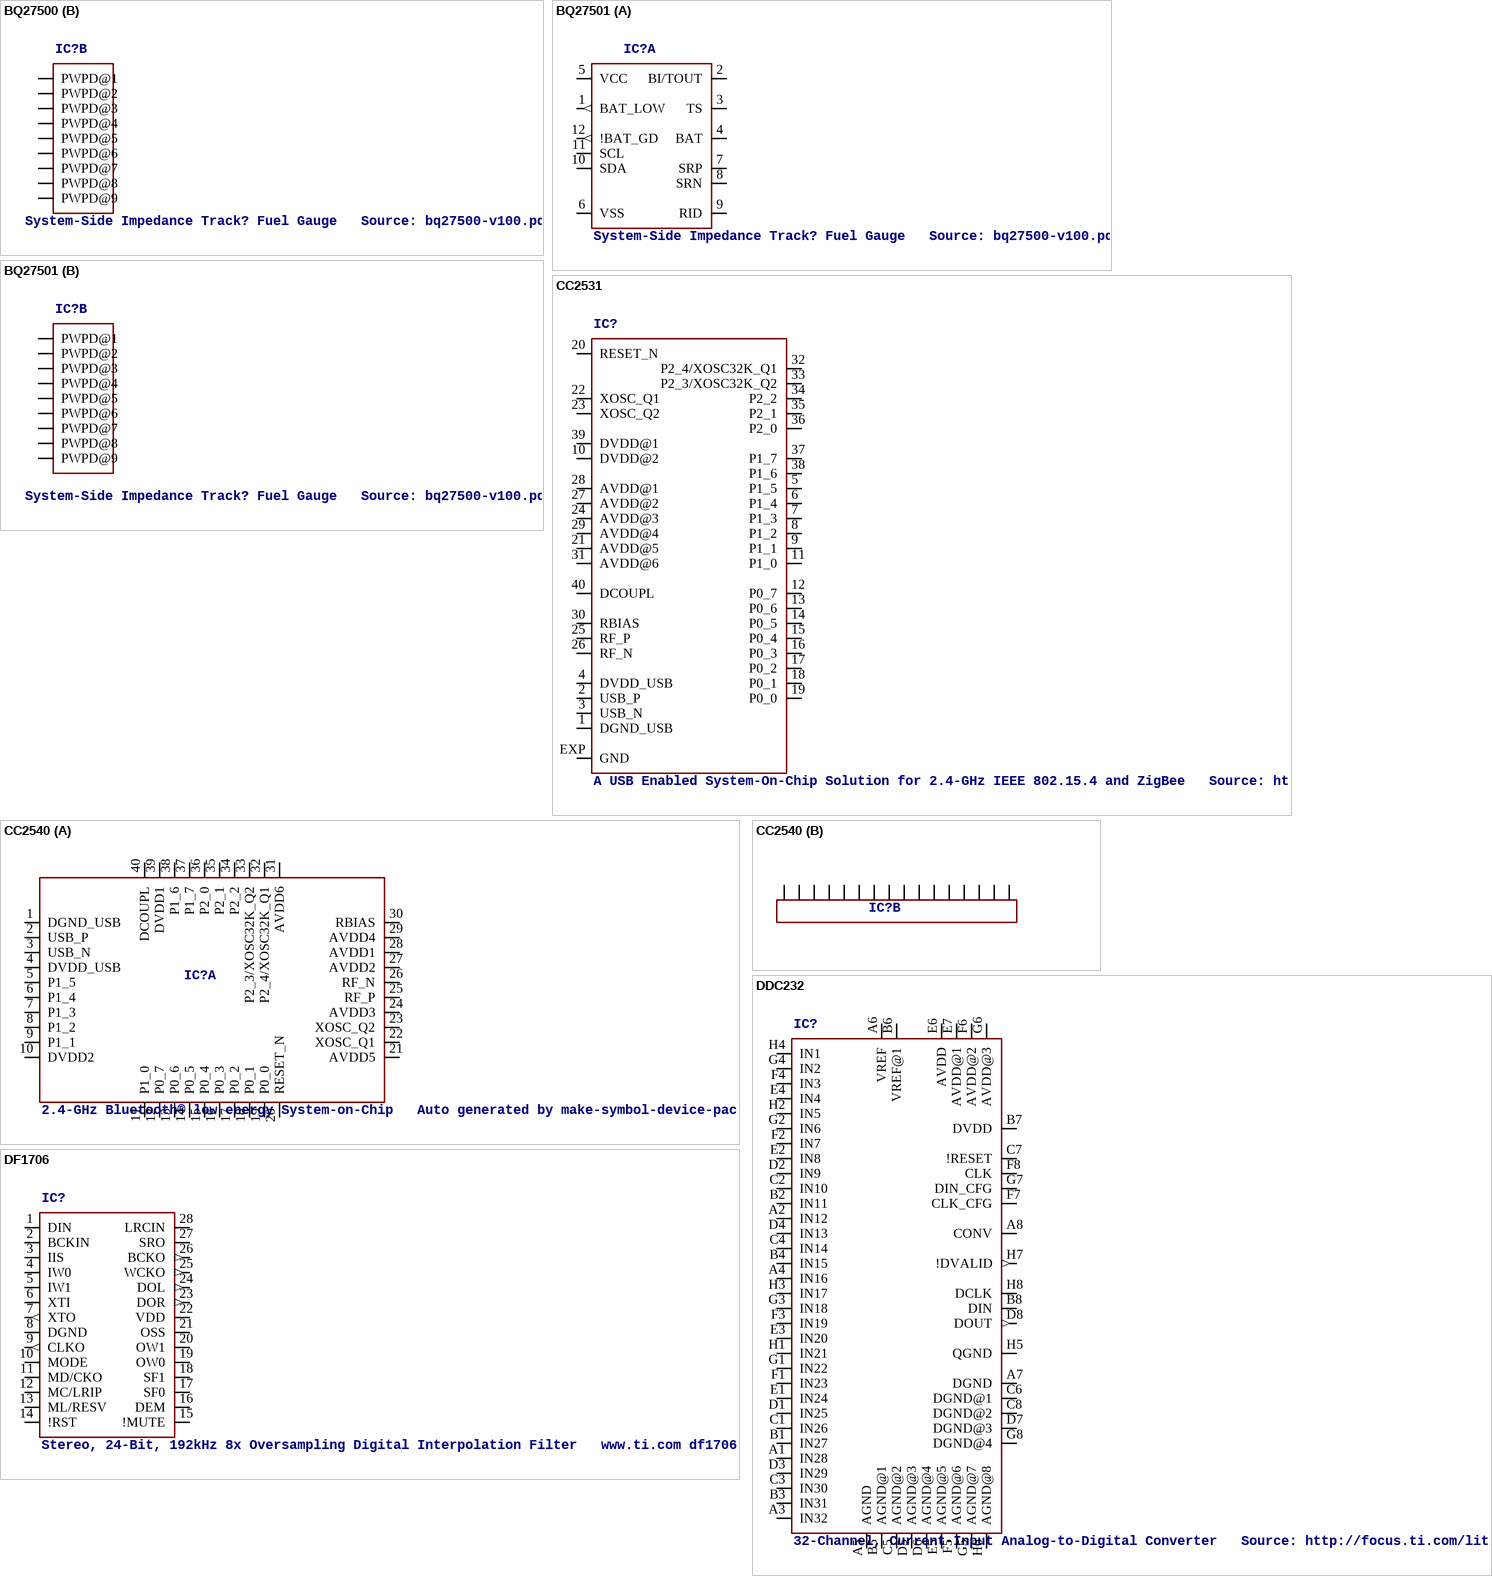
[diagram p4: symbols BQ27500 to DF1706]

## BQ27500
designator IC?, comment System-Side Impedance Track? Fuel Gauge   Source: bq27500-v100.pdf
MPN: BQ27500DRZR; OC_FARNELL: 1561320; OC_NEWARK: 84M8746
footprint DRZ
part A pins: 1 BAT_LOW (out), 2 BI/TOUT, 3 TS, 4 BAT, 5 VCC (power), 6 VSS (power), 7 SRP, 8 SRN, 9 NC, 10 SDA, 11 SCL, 12 !BAT_GD (out)
part B pins: EXP@1 PWPD@1 (power), EXP@2 PWPD@2 (power), EXP@3 PWPD@3 (power), EXP@4 PWPD@4 (power), EXP@5 PWPD@5 (power), EXP@6 PWPD@6 (power), EXP@7 PWPD@7 (power), EXP@8 PWPD@8 (power), EXP@9 PWPD@9 (power)

## BQ27501
designator IC?, comment System-Side Impedance Track? Fuel Gauge   Source: bq27500-v100.pdf
MPN: BQ27501DRZT; OC_FARNELL: 1710789; OC_NEWARK: 50P9379
footprint DRZ
part A pins: 1 BAT_LOW (out), 2 BI/TOUT, 3 TS, 4 BAT, 5 VCC (power), 6 VSS (power), 7 SRP, 8 SRN, 9 RID, 10 SDA, 11 SCL, 12 !BAT_GD (out)
part B pins: EXP@1 PWPD@1 (power), EXP@2 PWPD@2 (power), EXP@3 PWPD@3 (power), EXP@4 PWPD@4 (power), EXP@5 PWPD@5 (power), EXP@6 PWPD@6 (power), EXP@7 PWPD@7 (power), EXP@8 PWPD@8 (power), EXP@9 PWPD@9 (power)

## CC2531
designator IC?, comment A USB Enabled System-On-Chip Solution for 2.4-GHz IEEE 802.15.4 and ZigBee   Source: http://focus.ti.com/lit/ds/symlink/cc2531.pdf
MPN: CC2531F256RHAT; OC_FARNELL: 1776351; OC_NEWARK: 34R2713
footprint RHA_S-PVQFN-N40
pins: 1 DGND_USB (power), 2 USB_P, 3 USB_N, 4 DVDD_USB (power), 5 P1_5, 6 P1_4, 7 P1_3, 8 P1_2, 9 P1_1, 10 DVDD@2 (power), 11 P1_0, 12 P0_7, 13 P0_6, 14 P0_5, 15 P0_4, 16 P0_3, 17 P0_2, 18 P0_1, 19 P0_0, 20 RESET_N, 21 AVDD@5 (power), 22 XOSC_Q1, 23 XOSC_Q2, 24 AVDD@3 (power), 25 RF_P, 26 RF_N, 27 AVDD@2 (power), 28 AVDD@1 (power), 29 AVDD@4 (power), 30 RBIAS, 31 AVDD@6 (power), 32 P2_4/XOSC32K_Q1, 33 P2_3/XOSC32K_Q2, 34 P2_2, 35 P2_1, 36 P2_0, 37 P1_7, 38 P1_6, 39 DVDD@1 (power), 40 DCOUPL (power), EXP GND

## CC2540
designator IC?, comment 2.4-GHz Bluetooth® low energy System-on-Chip   Auto generated by make-symbol-device-package-bsdl.ulp Rev. 39 Source: cc2540.txt
footprint QFN40-6X6
part A pins: 1 DGND_USB (power), 2 USB_P, 3 USB_N, 4 DVDD_USB (power), 5 P1_5, 6 P1_4, 7 P1_3, 8 P1_2, 9 P1_1, 10 DVDD2 (power), 11 P1_0, 12 P0_7, 13 P0_6, 14 P0_5, 15 P0_4, 16 P0_3, 17 P0_2, 18 P0_1, 19 P0_0, 20 RESET_N, 21 AVDD5 (power), 22 XOSC_Q1, 23 XOSC_Q2, 24 AVDD3 (power), 25 RF_P, 26 RF_N, 27 AVDD2 (power), 28 AVDD1 (power), 29 AVDD4 (power), 30 RBIAS, 31 AVDD6 (power), 32 P2_4/XOSC32K_Q1, 33 P2_3/XOSC32K_Q2, 34 P2_2, 35 P2_1, 36 P2_0, 37 P1_7, 38 P1_6, 39 DVDD1 (power), 40 DCOUPL (power)
part B pins: EXP@1 EXP16@1, EXP@2 EXP16@2, EXP@3 EXP16@3, EXP@4 EXP16@4, EXP@5 EXP16@5, EXP@6 EXP16@6, EXP@7 EXP16@7, EXP@8 EXP16@8, EXP@9 EXP16@9, EXP@10 EXP16@10, EXP@11 EXP16@11, EXP@12 EXP16@12, EXP@13 EXP16@13, EXP@14 EXP16@14, EXP@15 EXP16@15, EXP@16 EXP16@16

## DDC232
designator IC?, comment 32-Channel, Current-Input Analog-to-Digital Converter   Source: http://focus.ti.com/lit/ds/symlink/ddc232.pdf
MPN: DDC232CGXGR; OC_FARNELL: unknown; OC_NEWARK: 18M7216
footprint PBGA-N64
pins: A1 IN28, A2 IN12, A3 IN32, A4 IN16, A5 AGND (power), A6 VREF, A7 DGND (power), A8 CONV, B1 IN27, B2 IN11, B3 IN31, B4 IN15, B5 AGND@1 (power), B6 VREF@1, B7 DVDD (power), B8 DIN, C1 IN26, C2 IN10, C3 IN30, C4 IN14, C5 AGND@2 (power), C6 DGND@1 (power), C7 !RESET, C8 DGND@2 (power), D1 IN25, D2 IN9, D3 IN29, D4 IN13, D5 AGND@3 (power), D6 AGND@4 (power), D7 DGND@3 (power), D8 DOUT (out), E1 IN24, E2 IN8, E3 IN20, E4 IN4, E5 AGND@5 (power), E6 AVDD (power), E7 AVDD@1 (power), F1 IN23, F2 IN7, F3 IN19, F4 IN3, F5 AGND@6 (power), F6 AVDD@2 (power), F7 CLK_CFG, F8 CLK, G1 IN22, G2 IN6, G3 IN18, G4 IN2, G5 AGND@7 (power), G6 AVDD@3 (power), G7 DIN_CFG, G8 DGND@4 (power), H1 IN21, H2 IN5, H3 IN17, H4 IN1, H5 QGND (power), H6 AGND@8 (power), H7 !DVALID (out), H8 DCLK

## DF1706
designator IC?, comment Stereo, 24-Bit, 192kHz 8x Oversampling Digital Interpolation Filter   www.ti.com df1706.pdf
MPN: DF1706EG4; OC_FARNELL: unknown; OC_NEWARK: 66K1929
footprint SSOP28DB
pins: 1 DIN, 2 BCKIN, 3 IIS, 4 IW0, 5 IW1, 6 XTI, 7 XTO (out), 8 DGND (power), 9 CLKO (out), 10 MODE, 11 MD/CKO, 12 MC/LRIP, 13 ML/RESV, 14 !RST, 15 !MUTE, 16 DEM, 17 SF0, 18 SF1, 19 OW0, 20 OW1, 21 OSS, 22 VDD (power), 23 DOR (out), 24 DOL (out), 25 WCKO (out), 26 BCKO (out), 27 SRO, 28 LRCIN

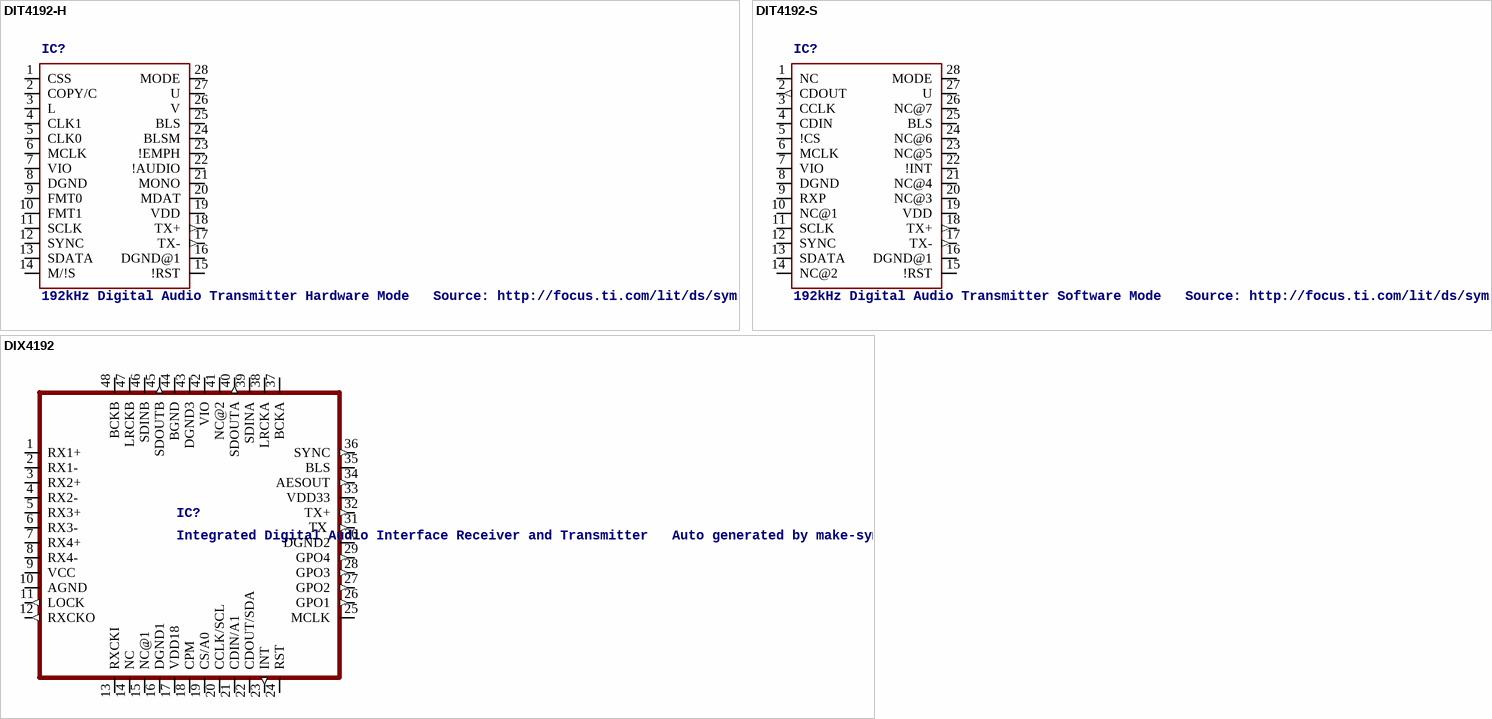
[diagram p5: symbols DIT4192-H to DIX4192]

## DIT4192-H
designator IC?, comment 192kHz Digital Audio Transmitter Hardware Mode   Source: http://focus.ti.com/lit/ds/symlink/dit4192.pdf
MPN: DIT4192IPW; MF: TEXAS INSTRUMENTS; OC_FARNELL: 7455057; OC_NEWARK: 74C9511
footprint PW_R-PDSO-G28
pins: 1 CSS, 2 COPY/C, 3 L, 4 CLK1, 5 CLK0, 6 MCLK, 7 VIO (power), 8 DGND (power), 9 FMT0, 10 FMT1, 11 SCLK, 12 SYNC, 13 SDATA, 14 M/!S, 15 !RST, 16 DGND@1 (power), 17 TX- (out), 18 TX+ (out), 19 VDD (power), 20 MDAT, 21 MONO, 22 !AUDIO, 23 !EMPH, 24 BLSM, 25 BLS, 26 V, 27 U, 28 MODE

## DIT4192-S
designator IC?, comment 192kHz Digital Audio Transmitter Software Mode   Source: http://focus.ti.com/lit/ds/symlink/dit4192.pdf
MPN: DIT4192IPW; MF: TEXAS INSTRUMENTS; OC_FARNELL: 7455057; OC_NEWARK: 74C9511
footprint PW_R-PDSO-G28
pins: 1 NC, 2 CDOUT (out), 3 CCLK, 4 CDIN, 5 !CS, 6 MCLK, 7 VIO (power), 8 DGND (power), 9 RXP, 10 NC@1, 11 SCLK, 12 SYNC, 13 SDATA, 14 NC@2, 15 !RST, 16 DGND@1 (power), 17 TX- (out), 18 TX+ (out), 19 VDD (power), 20 NC@3, 21 NC@4, 22 !INT (oc), 23 NC@5, 24 NC@6, 25 BLS, 26 NC@7, 27 U, 28 MODE

## DIX4192
designator IC?, comment Integrated Digital Audio Interface Receiver and Transmitter   Auto generated by make-symbol-device-package-bsdl.ulp Rev. 29 Source: http://focus.ti.com/lit/ds/symlink/dix4192.pdf
MPN: DIX4192IPFBG4; OC_FARNELL: 1390700; OC_NEWARK: 61M5849
footprint S-PQFP-G48
pins: 1 RX1+, 2 RX1-, 3 RX2+, 4 RX2-, 5 RX3+, 6 RX3-, 7 RX4+, 8 RX4-, 9 VCC (power), 10 AGND (power), 11 LOCK (out), 12 RXCKO (out), 13 RXCKI, 14 NC, 15 NC@1, 16 DGND1 (power), 17 VDD18 (power), 18 CPM, 19 CS/A0, 20 CCLK/SCL, 21 CDIN/A1, 22 CDOUT/SDA, 23 INT (out), 24 RST, 25 MCLK, 26 GPO1 (out), 27 GPO2 (out), 28 GPO3 (out), 29 GPO4 (out), 30 DGND2 (power), 31 TX (out), 32 TX+ (out), 33 VDD33 (power), 34 AESOUT (out), 35 BLS, 36 SYNC (out), 37 BCKA, 38 LRCKA, 39 SDINA, 40 SDOUTA (out), 41 NC@2, 42 VIO (power), 43 DGND3 (power), 44 BGND (power), 45 SDOUTB (out), 46 SDINB, 47 LRCKB, 48 BCKB

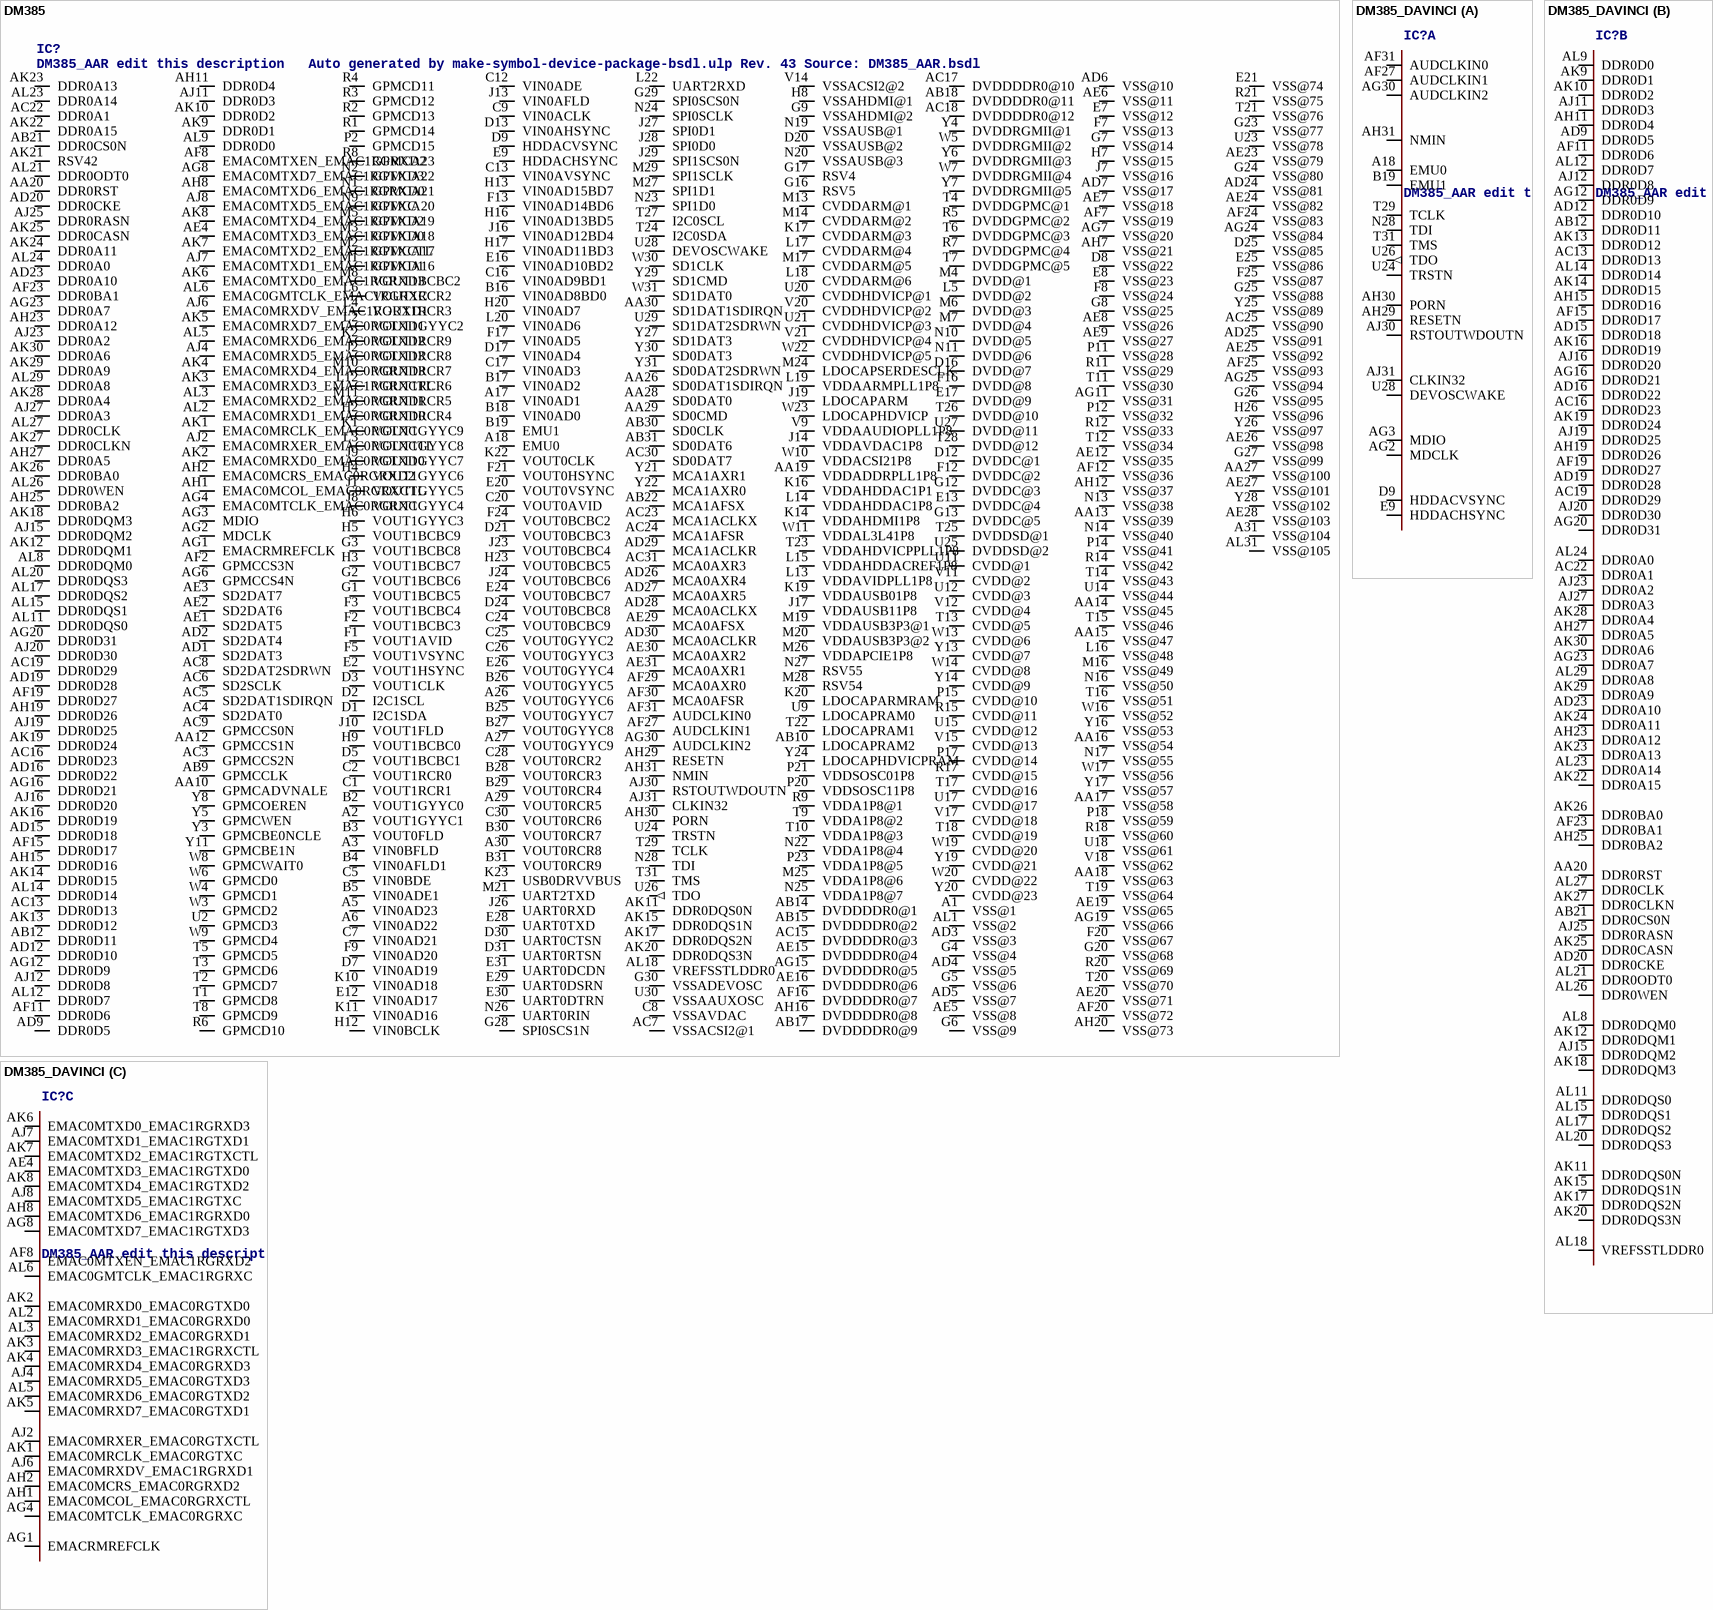
[diagram p6: symbols DM385 to DM385_DAVINCI]

## DM385
designator IC?, comment DM385_AAR edit this description   Auto generated by make-symbol-device-package-bsdl.ulp Rev. 43 Source: DM385_AAR.bsdl
footprint AAR
pins: A1 VSS@1 (power), A2 VOUT1GYYC1, A3 VIN0BFLD, A5 VIN0AD23, A6 VIN0AD22, A17 VIN0AD1, A18 EMU0, A26 VOUT0GYYC6, A27 VOUT0GYYC9, A29 VOUT0RCR5, A30 VOUT0RCR8, A31 VSS@104 (power), AA10 GPMCADVNALE, AA12 GPMCCS1N, AA13 VSS@39 (power), AA14 VSS@45 (power), AA15 VSS@47 (power), AA16 VSS@54 (power), AA17 VSS@58 (power), AA18 VSS@63 (power), AA19 VDDADDRPLL1P8 (power), AA20 DDR0RST, AA26 SD0DAT1SDIRQN, AA27 VSS@100 (power), AA28 SD0DAT0, AA29 SD0CMD, AA30 SD1DAT1SDIRQN, AB9 GPMCCLK, AB10 LDOCAPRAM2, AB12 DDR0D11, AB14 DVDDDDR0@1 (power), AB15 DVDDDDR0@2 (power), AB17 DVDDDDR0@9 (power), AB18 DVDDDDR0@11 (power), AB21 DDR0CS0N, AB22 MCA1AFSX, AB30 SD0CLK, AB31 SD0DAT6, AC3 GPMCCS2N, AC4 SD2DAT0, AC5 SD2DAT1SDIRQN, AC6 SD2SCLK, AC7 VSSACSI2@1 (power), AC8 SD2DAT2SDRWN, AC9 GPMCCS0N, AC13 DDR0D13, AC15 DVDDDDR0@3 (power), AC16 DDR0D23, AC17 DVDDDDR0@10 (power), AC18 DVDDDDR0@12 (power), AC19 DDR0D29, AC22 DDR0A1, AC23 MCA1ACLKX, AC24 MCA1AFSR, AC25 VSS@90 (power), AC30 SD0DAT7, AC31 MCA0AXR3, AD1 SD2DAT3, AD2 SD2DAT4, AD3 VSS@3 (power), AD4 VSS@5 (power), AD5 VSS@7 (power), AD6 VSS@10 (power), AD7 VSS@17 (power), AD9 DDR0D5, AD12 DDR0D10, AD15 DDR0D18, AD16 DDR0D22, AD19 DDR0D28, AD20 DDR0CKE, AD23 DDR0A10, AD24 VSS@81 (power), AD25 VSS@91 (power), AD26 MCA0AXR4, AD27 MCA0AXR5, AD28 MCA0ACLKX, AD29 MCA1ACLKR, AD30 MCA0ACLKR, AE1 SD2DAT5, AE2 SD2DAT6, AE3 SD2DAT7, AE4 EMAC0MTXD3_EMAC1RGTXD0, AE5 VSS@8 (power), AE6 VSS@11 (power), AE7 VSS@18 (power), AE8 VSS@26 (power), AE9 VSS@27 (power), AE12 VSS@35 (power), AE15 DVDDDDR0@4 (power), AE16 DVDDDDR0@6 (power), AE19 VSS@65 (power), AE20 VSS@71 (power), AE23 VSS@79 (power), AE24 VSS@82 (power), AE25 VSS@92 (power), AE26 VSS@98 (power), AE27 VSS@101 (power), AE28 VSS@103 (power), AE29 MCA0AFSX, AE30 MCA0AXR2, AE31 MCA0AXR1, AF2 GPMCCS3N, AF7 VSS@19 (power), AF8 EMAC0MTXEN_EMAC1RGRXD2, AF11 DDR0D6, AF12 VSS@36 (power), AF15 DDR0D17, AF16 DVDDDDR0@7 (power), AF19 DDR0D27, AF20 VSS@72 (power), AF23 DDR0BA1, AF24 VSS@83 (power), AF25 VSS@93 (power), AF27 AUDCLKIN1, AF29 MCA0AXR0, AF30 MCA0AFSR, AF31 AUDCLKIN0, AG1 EMACRMREFCLK, AG2 MDCLK, AG3 MDIO, AG4 EMAC0MTCLK_EMAC0RGRXC, AG6 GPMCCS4N, AG7 VSS@20 (power), AG8 EMAC0MTXD7_EMAC1RGTXD3, AG11 VSS@31 (power), AG12 DDR0D9, AG15 DVDDDDR0@5 (power), AG16 DDR0D21, AG19 VSS@66 (power), AG20 DDR0D31, AG23 DDR0A7, AG24 VSS@84 (power), AG25 VSS@94 (power), AG30 AUDCLKIN2, AH1 EMAC0MCOL_EMAC0RGRXCTL, AH2 EMAC0MCRS_EMAC0RGRXD2, AH7 VSS@21 (power), AH8 EMAC0MTXD6_EMAC1RGRXD0, AH11 DDR0D4, AH12 VSS@37 (power), AH15 DDR0D16, AH16 DVDDDDR0@8 (power), AH19 DDR0D26, AH20 VSS@73 (power), AH23 DDR0A12, AH25 DDR0BA2, AH27 DDR0A5, AH29 RESETN, AH30 PORN, AH31 NMIN, AJ2 EMAC0MRXER_EMAC0RGTXCTL, AJ4 EMAC0MRXD5_EMAC0RGTXD3, AJ6 EMAC0MRXDV_EMAC1RGRXD1, AJ7 EMAC0MTXD1_EMAC1RGTXD1, AJ8 EMAC0MTXD5_EMAC1RGTXC, AJ11 DDR0D3, AJ12 DDR0D8, AJ15 DDR0DQM2, AJ16 DDR0D20, AJ19 DDR0D25, AJ20 DDR0D30, AJ23 DDR0A2, AJ25 DDR0RASN, AJ27 DDR0A3, AJ30 RSTOUTWDOUTN, AJ31 CLKIN32, AK1 EMAC0MRCLK_EMAC0RGTXC, AK2 EMAC0MRXD0_EMAC0RGTXD0, AK3 EMAC0MRXD3_EMAC1RGRXCTL, AK4 EMAC0MRXD4_EMAC0RGRXD3, AK5 EMAC0MRXD7_EMAC0RGTXD1, AK6 EMAC0MTXD0_EMAC1RGRXD3, AK7 EMAC0MTXD2_EMAC1RGTXCTL, AK8 EMAC0MTXD4_EMAC1RGTXD2, AK9 DDR0D1, AK10 DDR0D2, AK11 DDR0DQS0N, AK12 DDR0DQM1, AK13 DDR0D12, AK14 DDR0D15, AK15 DDR0DQS1N, AK16 DDR0D19, AK17 DDR0DQS2N, AK18 DDR0DQM3, AK19 DDR0D24, AK20 DDR0DQS3N, AK21 RSV42, AK22 DDR0A15, AK23 DDR0A13, AK24 DDR0A11, AK25 DDR0CASN, AK26 DDR0BA0, AK27 DDR0CLKN, AK28 DDR0A4, AK29 DDR0A9, AK30 DDR0A6, AL1 VSS@2 (power), AL2 EMAC0MRXD1_EMAC0RGRXD0, AL3 EMAC0MRXD2_EMAC0RGRXD1, AL5 EMAC0MRXD6_EMAC0RGTXD2, AL6 EMAC0GMTCLK_EMAC1RGRXC, AL8 DDR0DQM0, AL9 DDR0D0, AL11 DDR0DQS0, AL12 DDR0D7, AL14 DDR0D14, AL15 DDR0DQS1, AL17 DDR0DQS2, AL18 VREFSSTLDDR0, AL20 DDR0DQS3, AL21 DDR0ODT0, AL23 DDR0A14, AL24 DDR0A0, AL26 DDR0WEN, AL27 DDR0CLK, AL29 DDR0A8, AL31 VSS@105 (power), B2 VOUT1GYYC0, B3 VOUT0FLD, B4 VIN0AFLD1, B5 VIN0ADE1, B16 VIN0AD8BD0, B17 VIN0AD2, B18 VIN0AD0, B19 EMU1, B25 VOUT0GYYC7, B26 VOUT0GYYC5, B27 VOUT0GYYC8, B28 VOUT0RCR3, B29 VOUT0RCR4, B30 VOUT0RCR7, B31 VOUT0RCR9, C1 VOUT1RCR1, C2 VOUT1RCR0, C5 VIN0BDE, C7 VIN0AD21, C8 VSSAVDAC (power), C9 VIN0ACLK, C12 VIN0ADE, C13 VIN0AVSYNC, C16 VIN0AD9BD1, C17 VIN0AD3, C20 VOUT0AVID, C24 VOUT0BCBC9, C25 VOUT0GYYC2, C26 VOUT0GYYC3, C28 VOUT0RCR2, C30 VOUT0RCR6, D1 I2C1SDA, D2 I2C1SCL, D3 VOUT1CLK, D5 VOUT1BCBC1, D7 VIN0AD19, D8 VSS@22 (power), D9 HDDACVSYNC, D12 DVDDC@1 (power), D13 VIN0AHSYNC, D16 DVDD@7 (power), D17 VIN0AD4, D20 VSSAUSB@2 (power), D21 VOUT0BCBC3, D24 VOUT0BCBC8, D25 VSS@85 (power), D30 UART0CTSN, D31 UART0RTSN, E2 VOUT1HSYNC, E7 VSS@12 (power), E8 VSS@23 (power), E9 HDDACHSYNC, E12 VIN0AD17, E13 DVDDC@4 (power), E16 VIN0AD10BD2, E17 DVDD@9 (power), E20 VOUT0VSYNC, E21 VSS@74 (power), E24 VOUT0BCBC7, E25 VSS@86 (power), E26 VOUT0GYYC4, E28 UART0TXD, E29 UART0DSRN, E30 UART0DTRN, E31 UART0DCDN, F1 VOUT1AVID, F2 VOUT1BCBC3, F3 VOUT1BCBC4, F5 VOUT1VSYNC, F7 VSS@13 (power), F8 VSS@24 (power), F9 VIN0AD20, F12 DVDDC@2 (power), F13 VIN0AD14BD6, F16 DVDD@8 (power), F17 VIN0AD5, F20 VSS@67 (power), F21 VOUT0HSYNC, F24 VOUT0BCBC2, F25 VSS@87 (power), G1 VOUT1BCBC5, G2 VOUT1BCBC6, G3 VOUT1BCBC8, G4 VSS@4 (power), G5 VSS@6 (power), G6 VSS@9 (power), G7 VSS@14 (power), G8 VSS@25 (power), G9 VSSAHDMI@2 (power), G12 DVDDC@3 (power), G13 DVDDC@5 (power), G16 RSV5, G17 RSV4, G20 VSS@68 (power), G23 VSS@77 (power), G24 VSS@80 (power), G25 VSS@88 (power), G26 VSS@95 (power), G27 VSS@99 (power), G28 SPI0SCS1N, G29 SPI0SCS0N, G30 VSSADEVOSC (power), H2 VOUT1RCR4, H3 VOUT1BCBC7, H4 VOUT1GYYC6, H5 VOUT1BCBC9, H6 VOUT1GYYC3, H7 VSS@15 (power), H8 VSSAHDMI@1 (power), H9 VOUT1BCBC0, H12 VIN0BCLK, H13 VIN0AD15BD7, H16 VIN0AD13BD5, H17 VIN0AD11BD3, H20 VIN0AD7, H23 VOUT0BCBC5, H26 VSS@96 (power), J1 VOUT1GYYC5, J2 VOUT1RCR8, J7 VSS@16 (power), J8 VOUT1GYYC4, J9 VOUT1GYYC7, J10 VOUT1FLD, J13 VIN0AFLD, J14 VDDAVDAC1P8 (power), J16 VIN0AD12BD4, J17 VDDAUSB11P8 (power), J19 LDOCAPARM, J23 VOUT0BCBC4, J24 VOUT0BCBC6, J26 UART0RXD, J27 SPI0D1, J28 SPI0D0, J29 SPI1SCS0N, K1 VOUT1GYYC9, K2 VOUT1RCR9, K10 VIN0AD18, K11 VIN0AD16, K14 VDDAHDMI1P8 (power), K16 VDDAHDDAC1P1 (power), K17 CVDDARM@3 (power), K19 VDDAUSB01P8 (power), K20 LDOCAPARMRAM, K22 VOUT0CLK, K23 USB0DRVVBUS, L2 VOUT1GYYC2, L3 VOUT1GYYC8, L4 VOUT1RCR3, L5 DVDD@2 (power), L6 VOUT1RCR2, L12 VOUT1RCR6, L13 VDDAVIDPLL1P8 (power), L14 VDDAHDDAC1P8 (power), L15 VDDAHDDACREF1P8 (power), L16 VSS@48 (power), L17 CVDDARM@4 (power), L18 CVDDARM@6 (power), L19 VDDAARMPLL1P8 (power), L20 VIN0AD6, L22 UART2RXD, M1 GPMCA16, M2 GPMCA17, M3 GPMCA18, M4 DVDD@1 (power), M5 GPMCA19, M6 DVDD@3 (power), M7 DVDD@4 (power), M8 VOUT1BCBC2, M10 VOUT1RCR7, M11 VOUT1RCR5, M13 CVDDARM@1 (power), M14 CVDDARM@2 (power), M16 VSS@49 (power), M17 CVDDARM@5 (power), M19 VDDAUSB3P3@1 (power), M20 VDDAUSB3P3@2 (power), M21 UART2TXD, M24 LDOCAPSERDESCLK, M25 VDDA1P8@6 (power), M26 VDDAPCIE1P8 (power), M27 SPI1D1, M28 RSV54, M29 SPI1SCLK, N1 GPMCA21, N2 GPMCA22, N9 GPMCA20, N10 DVDD@5 (power), N11 DVDD@6 (power), N13 VSS@38 (power), N14 VSS@40 (power), N16 VSS@50 (power), N17 VSS@55 (power), N19 VSSAUSB@1 (power), N20 VSSAUSB@3 (power), N22 VDDA1P8@4 (power), N23 SPI1D0, N24 SPI0SCLK, N25 VDDA1P8@7 (power), N26 UART0RIN, N27 RSV55, N28 TDI, P2 GPMCD15, P11 VSS@28 (power), P12 VSS@32 (power), P14 VSS@41 (power), P15 CVDD@10 (power), P17 CVDD@14 (power), P18 VSS@59 (power), P20 VDDSOSC11P8 (power), P21 VDDSOSC01P8 (power), P23 VDDA1P8@5 (power), R1 GPMCD14, R2 GPMCD13, R3 GPMCD12, R4 GPMCD11, R5 DVDDGPMC@2 (power), R6 GPMCD10, R7 DVDDGPMC@4 (power), R8 GPMCA23, R9 VDDA1P8@1 (power), R11 VSS@29 (power), R12 VSS@33 (power), R14 VSS@42 (power), R15 CVDD@11 (power), R17 CVDD@15 (power), R18 VSS@60 (power), R20 VSS@69 (power), R21 VSS@75 (power), T1 GPMCD8, T2 GPMCD7, T3 GPMCD6, T4 DVDDGPMC@1 (power), T5 GPMCD5, T6 DVDDGPMC@3 (power), T7 DVDDGPMC@5 (power), T8 GPMCD9, T9 VDDA1P8@2 (power), T10 VDDA1P8@3 (power), T11 VSS@30 (power), T12 VSS@34 (power), T13 CVDD@5 (power), T14 VSS@43 (power), T15 VSS@46 (power), T16 VSS@51 (power), T17 CVDD@16 (power), T18 CVDD@19 (power), T19 VSS@64 (power), T20 VSS@70 (power), T21 VSS@76 (power), T22 LDOCAPRAM1, T23 VDDAHDVICPPLL1P8 (power), T24 I2C0SDA, T25 DVDDSD@1 (power), T26 DVDD@10 (power), T27 I2C0SCL, T28 DVDD@12 (power), T29 TCLK, T31 TMS, U2 GPMCD3, U9 LDOCAPRAM0, U11 CVDD@1 (power), U12 CVDD@3 (power), U14 VSS@44 (power), U15 CVDD@12 (power), U17 CVDD@17 (power), U18 VSS@61 (power), U20 CVDDHDVICP@1 (power), U21 CVDDHDVICP@3 (power), U23 VSS@78 (power), U24 TRSTN, U25 DVDDSD@2 (power), U26 TDO (out), U27 DVDD@11 (power), U28 DEVOSCWAKE, U29 SD1DAT2SDRWN, U30 VSSAAUXOSC (power), V9 VDDAAUDIOPLL1P8 (power), V11 CVDD@2 (power), V12 CVDD@4 (power), V14 VSSACSI2@2 (power), V15 CVDD@13 (power), V17 CVDD@18 (power), V18 VSS@62 (power), V20 CVDDHDVICP@2 (power), V21 CVDDHDVICP@4 (power), W3 GPMCD2, W4 GPMCD1, W5 DVDDRGMII@2 (power), W6 GPMCD0, W7 DVDDRGMII@4 (power), W8 GPMCWAIT0, W9 GPMCD4, W10 VDDACSI21P8 (power), W11 VDDAL3L41P8 (power), W13 CVDD@6 (power), W14 CVDD@8 (power), W16 VSS@52 (power), W17 VSS@56 (power), W19 CVDD@20 (power), W20 CVDD@22 (power), W22 CVDDHDVICP@5 (power), W23 LDOCAPHDVICP, W30 SD1CLK, W31 SD1DAT0, Y3 GPMCBE0NCLE, Y4 DVDDRGMII@1 (power), Y5 GPMCWEN, Y6 DVDDRGMII@3 (power), Y7 DVDDRGMII@5 (power), Y8 GPMCOEREN, Y11 GPMCBE1N, Y13 CVDD@7 (power), Y14 CVDD@9 (power), Y16 VSS@53 (power), Y17 VSS@57 (power), Y19 CVDD@21 (power), Y20 CVDD@23 (power), Y21 MCA1AXR1, Y22 MCA1AXR0, Y24 LDOCAPHDVICPRAM, Y25 VSS@89 (power), Y26 VSS@97 (power), Y27 SD1DAT3, Y28 VSS@102 (power), Y29 SD1CMD, Y30 SD0DAT3, Y31 SD0DAT2SDRWN

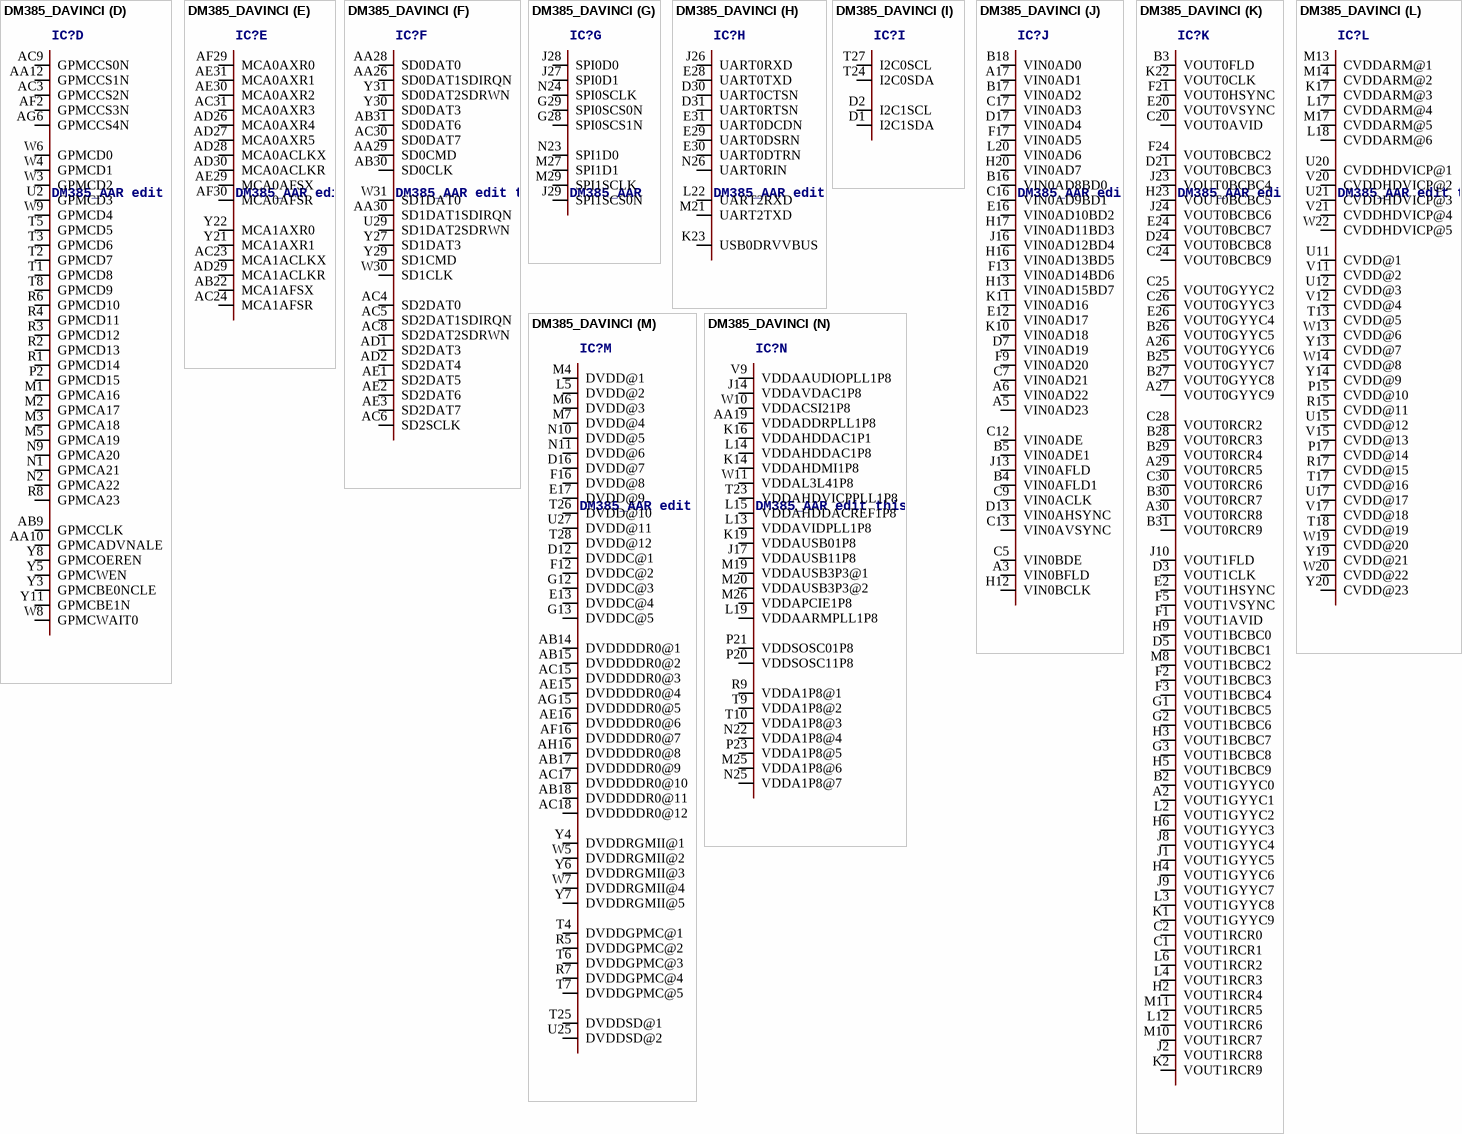
[diagram p7: symbol DM385_DAVINCI]

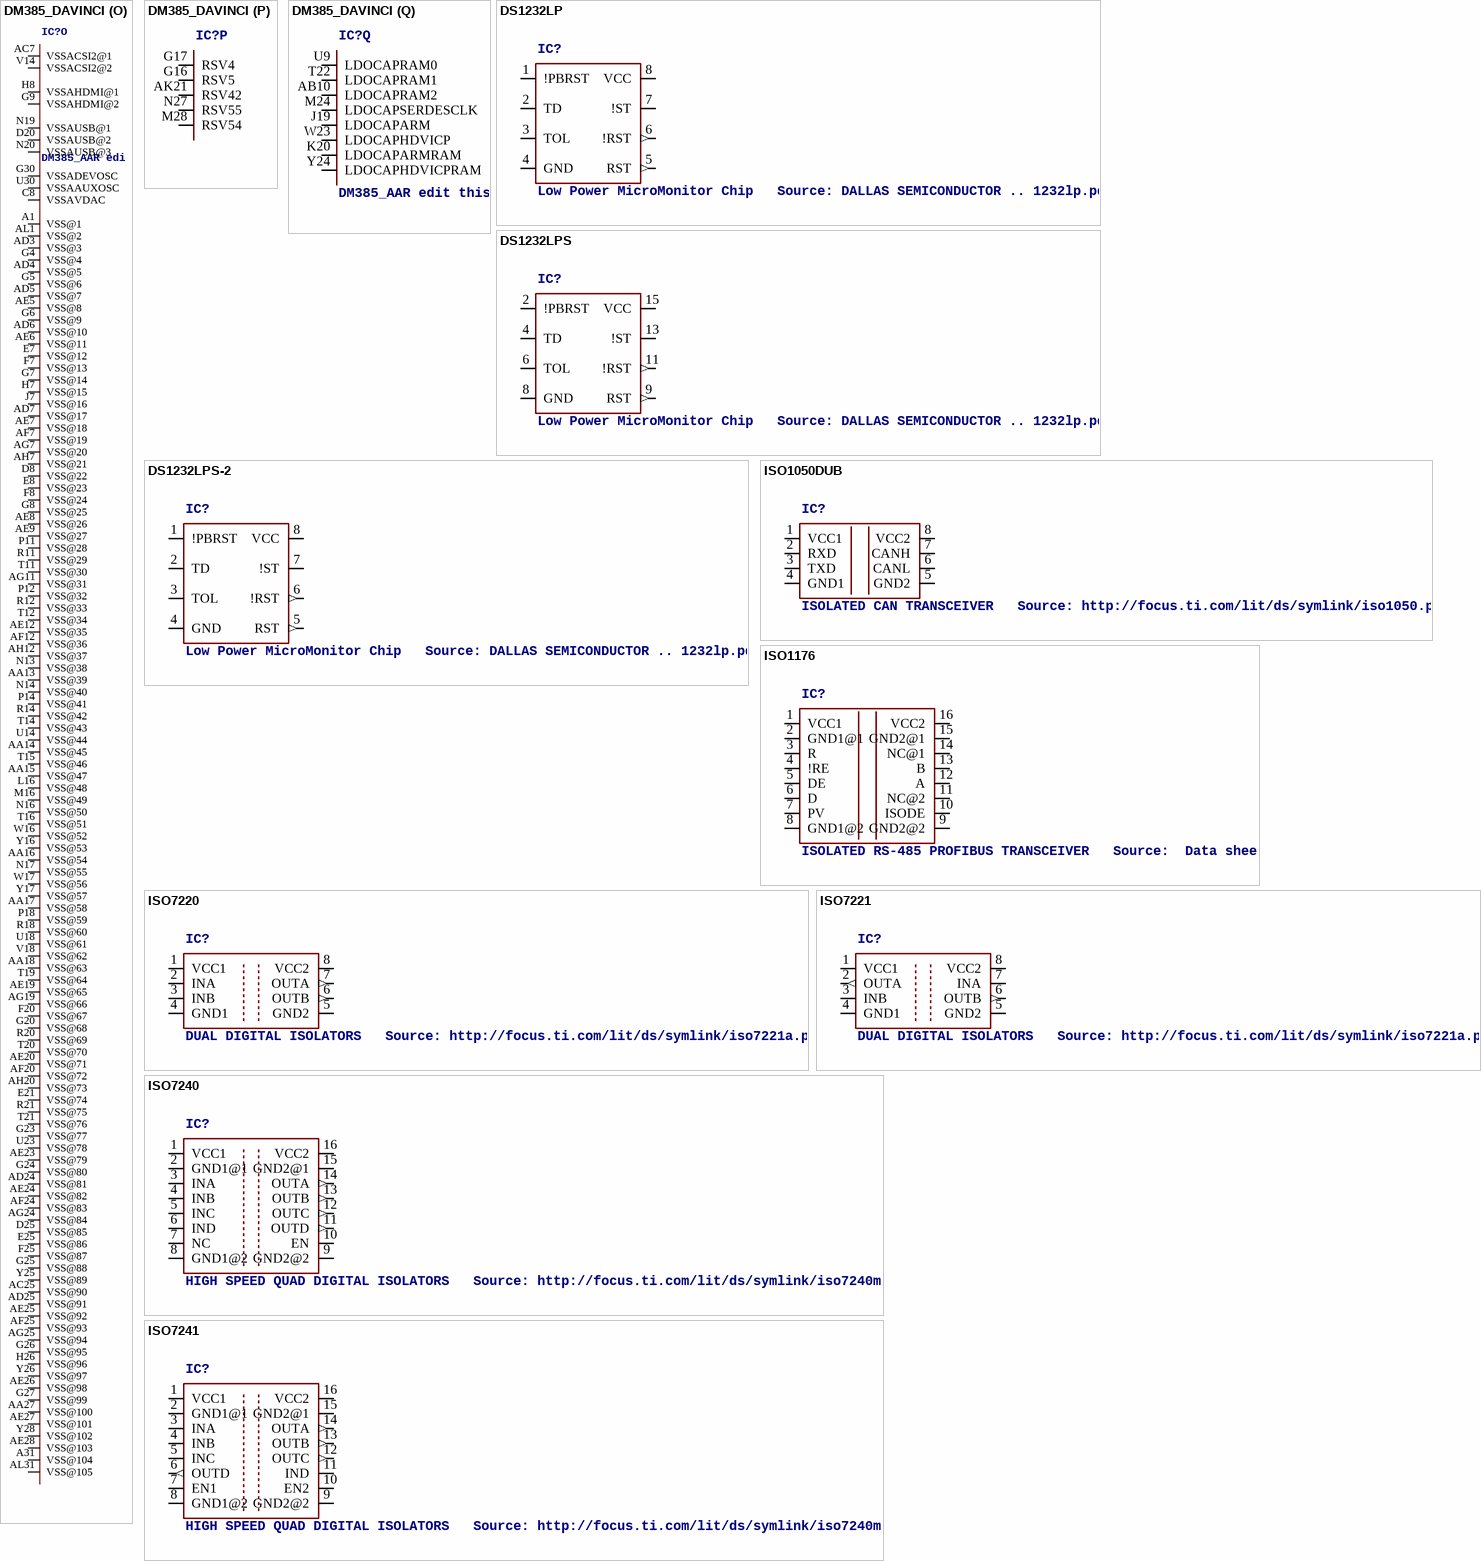
[diagram p8: symbols DM385_DAVINCI to ISO7241]

## DM385_DAVINCI
designator IC?, comment DM385_AAR edit this description   Auto generated by make-symbol-device-package-bsdl.ulp Rev. 43 Source: DM385_AAR.bsdl Connect-List generated from DM385.DEV Variant '' with connect-device-split-symbol.ulp
footprint AAR
part A pins: A18 EMU0, AF27 AUDCLKIN1, AF31 AUDCLKIN0, AG2 MDCLK, AG3 MDIO, AG30 AUDCLKIN2, AH29 RESETN, AH30 PORN, AH31 NMIN, AJ30 RSTOUTWDOUTN, AJ31 CLKIN32, B19 EMU1, D9 HDDACVSYNC, E9 HDDACHSYNC, N28 TDI, T29 TCLK, T31 TMS, U24 TRSTN, U26 TDO (out), U28 DEVOSCWAKE
part B pins: AA20 DDR0RST, AB12 DDR0D11, AB21 DDR0CS0N, AC13 DDR0D13, AC16 DDR0D23, AC19 DDR0D29, AC22 DDR0A1, AD9 DDR0D5, AD12 DDR0D10, AD15 DDR0D18, AD16 DDR0D22, AD19 DDR0D28, AD20 DDR0CKE, AD23 DDR0A10, AF11 DDR0D6, AF15 DDR0D17, AF19 DDR0D27, AF23 DDR0BA1, AG12 DDR0D9, AG16 DDR0D21, AG20 DDR0D31, AG23 DDR0A7, AH11 DDR0D4, AH15 DDR0D16, AH19 DDR0D26, AH23 DDR0A12, AH25 DDR0BA2, AH27 DDR0A5, AJ11 DDR0D3, AJ12 DDR0D8, AJ15 DDR0DQM2, AJ16 DDR0D20, AJ19 DDR0D25, AJ20 DDR0D30, AJ23 DDR0A2, AJ25 DDR0RASN, AJ27 DDR0A3, AK9 DDR0D1, AK10 DDR0D2, AK11 DDR0DQS0N, AK12 DDR0DQM1, AK13 DDR0D12, AK14 DDR0D15, AK15 DDR0DQS1N, AK16 DDR0D19, AK17 DDR0DQS2N, AK18 DDR0DQM3, AK19 DDR0D24, AK20 DDR0DQS3N, AK22 DDR0A15, AK23 DDR0A13, AK24 DDR0A11, AK25 DDR0CASN, AK26 DDR0BA0, AK27 DDR0CLKN, AK28 DDR0A4, AK29 DDR0A9, AK30 DDR0A6, AL8 DDR0DQM0, AL9 DDR0D0, AL11 DDR0DQS0, AL12 DDR0D7, AL14 DDR0D14, AL15 DDR0DQS1, AL17 DDR0DQS2, AL18 VREFSSTLDDR0, AL20 DDR0DQS3, AL21 DDR0ODT0, AL23 DDR0A14, AL24 DDR0A0, AL26 DDR0WEN, AL27 DDR0CLK, AL29 DDR0A8
part C pins: AE4 EMAC0MTXD3_EMAC1RGTXD0, AF8 EMAC0MTXEN_EMAC1RGRXD2, AG1 EMACRMREFCLK, AG4 EMAC0MTCLK_EMAC0RGRXC, AG8 EMAC0MTXD7_EMAC1RGTXD3, AH1 EMAC0MCOL_EMAC0RGRXCTL, AH2 EMAC0MCRS_EMAC0RGRXD2, AH8 EMAC0MTXD6_EMAC1RGRXD0, AJ2 EMAC0MRXER_EMAC0RGTXCTL, AJ4 EMAC0MRXD5_EMAC0RGTXD3, AJ6 EMAC0MRXDV_EMAC1RGRXD1, AJ7 EMAC0MTXD1_EMAC1RGTXD1, AJ8 EMAC0MTXD5_EMAC1RGTXC, AK1 EMAC0MRCLK_EMAC0RGTXC, AK2 EMAC0MRXD0_EMAC0RGTXD0, AK3 EMAC0MRXD3_EMAC1RGRXCTL, AK4 EMAC0MRXD4_EMAC0RGRXD3, AK5 EMAC0MRXD7_EMAC0RGTXD1, AK6 EMAC0MTXD0_EMAC1RGRXD3, AK7 EMAC0MTXD2_EMAC1RGTXCTL, AK8 EMAC0MTXD4_EMAC1RGTXD2, AL2 EMAC0MRXD1_EMAC0RGRXD0, AL3 EMAC0MRXD2_EMAC0RGRXD1, AL5 EMAC0MRXD6_EMAC0RGTXD2, AL6 EMAC0GMTCLK_EMAC1RGRXC
part D pins: AA10 GPMCADVNALE, AA12 GPMCCS1N, AB9 GPMCCLK, AC3 GPMCCS2N, AC9 GPMCCS0N, AF2 GPMCCS3N, AG6 GPMCCS4N, M1 GPMCA16, M2 GPMCA17, M3 GPMCA18, M5 GPMCA19, N1 GPMCA21, N2 GPMCA22, N9 GPMCA20, P2 GPMCD15, R1 GPMCD14, R2 GPMCD13, R3 GPMCD12, R4 GPMCD11, R6 GPMCD10, R8 GPMCA23, T1 GPMCD8, T2 GPMCD7, T3 GPMCD6, T5 GPMCD5, T8 GPMCD9, U2 GPMCD3, W3 GPMCD2, W4 GPMCD1, W6 GPMCD0, W8 GPMCWAIT0, W9 GPMCD4, Y3 GPMCBE0NCLE, Y5 GPMCWEN, Y8 GPMCOEREN, Y11 GPMCBE1N
part E pins: AB22 MCA1AFSX, AC23 MCA1ACLKX, AC24 MCA1AFSR, AC31 MCA0AXR3, AD26 MCA0AXR4, AD27 MCA0AXR5, AD28 MCA0ACLKX, AD29 MCA1ACLKR, AD30 MCA0ACLKR, AE29 MCA0AFSX, AE30 MCA0AXR2, AE31 MCA0AXR1, AF29 MCA0AXR0, AF30 MCA0AFSR, Y21 MCA1AXR1, Y22 MCA1AXR0
part F pins: AA26 SD0DAT1SDIRQN, AA28 SD0DAT0, AA29 SD0CMD, AA30 SD1DAT1SDIRQN, AB30 SD0CLK, AB31 SD0DAT6, AC4 SD2DAT0, AC5 SD2DAT1SDIRQN, AC6 SD2SCLK, AC8 SD2DAT2SDRWN, AC30 SD0DAT7, AD1 SD2DAT3, AD2 SD2DAT4, AE1 SD2DAT5, AE2 SD2DAT6, AE3 SD2DAT7, U29 SD1DAT2SDRWN, W30 SD1CLK, W31 SD1DAT0, Y27 SD1DAT3, Y29 SD1CMD, Y30 SD0DAT3, Y31 SD0DAT2SDRWN
part G pins: G28 SPI0SCS1N, G29 SPI0SCS0N, J27 SPI0D1, J28 SPI0D0, J29 SPI1SCS0N, M27 SPI1D1, M29 SPI1SCLK, N23 SPI1D0, N24 SPI0SCLK
part H pins: D30 UART0CTSN, D31 UART0RTSN, E28 UART0TXD, E29 UART0DSRN, E30 UART0DTRN, E31 UART0DCDN, J26 UART0RXD, K23 USB0DRVVBUS, L22 UART2RXD, M21 UART2TXD, N26 UART0RIN
part I pins: D1 I2C1SDA, D2 I2C1SCL, T24 I2C0SDA, T27 I2C0SCL
part J pins: A3 VIN0BFLD, A5 VIN0AD23, A6 VIN0AD22, A17 VIN0AD1, B4 VIN0AFLD1, B5 VIN0ADE1, B16 VIN0AD8BD0, B17 VIN0AD2, B18 VIN0AD0, C5 VIN0BDE, C7 VIN0AD21, C9 VIN0ACLK, C12 VIN0ADE, C13 VIN0AVSYNC, C16 VIN0AD9BD1, C17 VIN0AD3, D7 VIN0AD19, D13 VIN0AHSYNC, D17 VIN0AD4, E12 VIN0AD17, E16 VIN0AD10BD2, F9 VIN0AD20, F13 VIN0AD14BD6, F17 VIN0AD5, H12 VIN0BCLK, H13 VIN0AD15BD7, H16 VIN0AD13BD5, H17 VIN0AD11BD3, H20 VIN0AD7, J13 VIN0AFLD, J16 VIN0AD12BD4, K10 VIN0AD18, K11 VIN0AD16, L20 VIN0AD6
part K pins: A2 VOUT1GYYC1, A26 VOUT0GYYC6, A27 VOUT0GYYC9, A29 VOUT0RCR5, A30 VOUT0RCR8, B2 VOUT1GYYC0, B3 VOUT0FLD, B25 VOUT0GYYC7, B26 VOUT0GYYC5, B27 VOUT0GYYC8, B28 VOUT0RCR3, B29 VOUT0RCR4, B30 VOUT0RCR7, B31 VOUT0RCR9, C1 VOUT1RCR1, C2 VOUT1RCR0, C20 VOUT0AVID, C24 VOUT0BCBC9, C25 VOUT0GYYC2, C26 VOUT0GYYC3, C28 VOUT0RCR2, C30 VOUT0RCR6, D3 VOUT1CLK, D5 VOUT1BCBC1, D21 VOUT0BCBC3, D24 VOUT0BCBC8, E2 VOUT1HSYNC, E20 VOUT0VSYNC, E24 VOUT0BCBC7, E26 VOUT0GYYC4, F1 VOUT1AVID, F2 VOUT1BCBC3, F3 VOUT1BCBC4, F5 VOUT1VSYNC, F21 VOUT0HSYNC, F24 VOUT0BCBC2, G1 VOUT1BCBC5, G2 VOUT1BCBC6, G3 VOUT1BCBC8, H2 VOUT1RCR4, H3 VOUT1BCBC7, H4 VOUT1GYYC6, H5 VOUT1BCBC9, H6 VOUT1GYYC3, H9 VOUT1BCBC0, H23 VOUT0BCBC5, J1 VOUT1GYYC5, J2 VOUT1RCR8, J8 VOUT1GYYC4, J9 VOUT1GYYC7, J10 VOUT1FLD, J23 VOUT0BCBC4, J24 VOUT0BCBC6, K1 VOUT1GYYC9, K2 VOUT1RCR9, K22 VOUT0CLK, L2 VOUT1GYYC2, L3 VOUT1GYYC8, L4 VOUT1RCR3, L6 VOUT1RCR2, L12 VOUT1RCR6, M8 VOUT1BCBC2, M10 VOUT1RCR7, M11 VOUT1RCR5
part L pins: K17 CVDDARM@3 (power), L17 CVDDARM@4 (power), L18 CVDDARM@6 (power), M13 CVDDARM@1 (power), M14 CVDDARM@2 (power), M17 CVDDARM@5 (power), P15 CVDD@10 (power), P17 CVDD@14 (power), R15 CVDD@11 (power), R17 CVDD@15 (power), T13 CVDD@5 (power), T17 CVDD@16 (power), T18 CVDD@19 (power), U11 CVDD@1 (power), U12 CVDD@3 (power), U15 CVDD@12 (power), U17 CVDD@17 (power), U20 CVDDHDVICP@1 (power), U21 CVDDHDVICP@3 (power), V11 CVDD@2 (power), V12 CVDD@4 (power), V15 CVDD@13 (power), V17 CVDD@18 (power), V20 CVDDHDVICP@2 (power), V21 CVDDHDVICP@4 (power), W13 CVDD@6 (power), W14 CVDD@8 (power), W19 CVDD@20 (power), W20 CVDD@22 (power), W22 CVDDHDVICP@5 (power), Y13 CVDD@7 (power), Y14 CVDD@9 (power), Y19 CVDD@21 (power), Y20 CVDD@23 (power)
part M pins: AB14 DVDDDDR0@1 (power), AB15 DVDDDDR0@2 (power), AB17 DVDDDDR0@9 (power), AB18 DVDDDDR0@11 (power), AC15 DVDDDDR0@3 (power), AC17 DVDDDDR0@10 (power), AC18 DVDDDDR0@12 (power), AE15 DVDDDDR0@4 (power), AE16 DVDDDDR0@6 (power), AF16 DVDDDDR0@7 (power), AG15 DVDDDDR0@5 (power), AH16 DVDDDDR0@8 (power), D12 DVDDC@1 (power), D16 DVDD@7 (power), E13 DVDDC@4 (power), E17 DVDD@9 (power), F12 DVDDC@2 (power), F16 DVDD@8 (power), G12 DVDDC@3 (power), G13 DVDDC@5 (power), L5 DVDD@2 (power), M4 DVDD@1 (power), M6 DVDD@3 (power), M7 DVDD@4 (power), N10 DVDD@5 (power), N11 DVDD@6 (power), R5 DVDDGPMC@2 (power), R7 DVDDGPMC@4 (power), T4 DVDDGPMC@1 (power), T6 DVDDGPMC@3 (power), T7 DVDDGPMC@5 (power), T25 DVDDSD@1 (power), T26 DVDD@10 (power), T28 DVDD@12 (power), U25 DVDDSD@2 (power), U27 DVDD@11 (power), W5 DVDDRGMII@2 (power), W7 DVDDRGMII@4 (power), Y4 DVDDRGMII@1 (power), Y6 DVDDRGMII@3 (power), Y7 DVDDRGMII@5 (power)
part N pins: AA19 VDDADDRPLL1P8 (power), J14 VDDAVDAC1P8 (power), J17 VDDAUSB11P8 (power), K14 VDDAHDMI1P8 (power), K16 VDDAHDDAC1P1 (power), K19 VDDAUSB01P8 (power), L13 VDDAVIDPLL1P8 (power), L14 VDDAHDDAC1P8 (power), L15 VDDAHDDACREF1P8 (power), L19 VDDAARMPLL1P8 (power), M19 VDDAUSB3P3@1 (power), M20 VDDAUSB3P3@2 (power), M25 VDDA1P8@6 (power), M26 VDDAPCIE1P8 (power), N22 VDDA1P8@4 (power), N25 VDDA1P8@7 (power), P20 VDDSOSC11P8 (power), P21 VDDSOSC01P8 (power), P23 VDDA1P8@5 (power), R9 VDDA1P8@1 (power), T9 VDDA1P8@2 (power), T10 VDDA1P8@3 (power), T23 VDDAHDVICPPLL1P8 (power), V9 VDDAAUDIOPLL1P8 (power), W10 VDDACSI21P8 (power), W11 VDDAL3L41P8 (power)
part O pins: A1 VSS@1 (power), A31 VSS@104 (power), AA13 VSS@39 (power), AA14 VSS@45 (power), AA15 VSS@47 (power), AA16 VSS@54 (power), AA17 VSS@58 (power), AA18 VSS@63 (power), AA27 VSS@100 (power), AC7 VSSACSI2@1 (power), AC25 VSS@90 (power), AD3 VSS@3 (power), AD4 VSS@5 (power), AD5 VSS@7 (power), AD6 VSS@10 (power), AD7 VSS@17 (power), AD24 VSS@81 (power), AD25 VSS@91 (power), AE5 VSS@8 (power), AE6 VSS@11 (power), AE7 VSS@18 (power), AE8 VSS@26 (power), AE9 VSS@27 (power), AE12 VSS@35 (power), AE19 VSS@65 (power), AE20 VSS@71 (power), AE23 VSS@79 (power), AE24 VSS@82 (power), AE25 VSS@92 (power), AE26 VSS@98 (power), AE27 VSS@101 (power), AE28 VSS@103 (power), AF7 VSS@19 (power), AF12 VSS@36 (power), AF20 VSS@72 (power), AF24 VSS@83 (power), AF25 VSS@93 (power), AG7 VSS@20 (power), AG11 VSS@31 (power), AG19 VSS@66 (power), AG24 VSS@84 (power), AG25 VSS@94 (power), AH7 VSS@21 (power), AH12 VSS@37 (power), AH20 VSS@73 (power), AL1 VSS@2 (power), AL31 VSS@105 (power), C8 VSSAVDAC (power), D8 VSS@22 (power), D20 VSSAUSB@2 (power), D25 VSS@85 (power), E7 VSS@12 (power), E8 VSS@23 (power), E21 VSS@74 (power), E25 VSS@86 (power), F7 VSS@13 (power), F8 VSS@24 (power), F20 VSS@67 (power), F25 VSS@87 (power), G4 VSS@4 (power), G5 VSS@6 (power), G6 VSS@9 (power), G7 VSS@14 (power), G8 VSS@25 (power), G9 VSSAHDMI@2 (power), G20 VSS@68 (power), G23 VSS@77 (power), G24 VSS@80 (power), G25 VSS@88 (power), G26 VSS@95 (power), G27 VSS@99 (power), G30 VSSADEVOSC (power), H7 VSS@15 (power), H8 VSSAHDMI@1 (power), H26 VSS@96 (power), J7 VSS@16 (power), L16 VSS@48 (power), M16 VSS@49 (power), N13 VSS@38 (power), N14 VSS@40 (power), N16 VSS@50 (power), N17 VSS@55 (power), N19 VSSAUSB@1 (power), N20 VSSAUSB@3 (power), P11 VSS@28 (power), P12 VSS@32 (power), P14 VSS@41 (power), P18 VSS@59 (power), R11 VSS@29 (power), R12 VSS@33 (power), R14 VSS@42 (power), R18 VSS@60 (power), R20 VSS@69 (power), R21 VSS@75 (power), T11 VSS@30 (power), T12 VSS@34 (power), T14 VSS@43 (power), T15 VSS@46 (power), T16 VSS@51 (power), T19 VSS@64 (power), T20 VSS@70 (power), T21 VSS@76 (power), U14 VSS@44 (power), U18 VSS@61 (power), U23 VSS@78 (power), U30 VSSAAUXOSC (power), V14 VSSACSI2@2 (power), V18 VSS@62 (power), W16 VSS@52 (power), W17 VSS@56 (power), Y16 VSS@53 (power), Y17 VSS@57 (power), Y25 VSS@89 (power), Y26 VSS@97 (power), Y28 VSS@102 (power)
part P pins: AK21 RSV42, G16 RSV5, G17 RSV4, M28 RSV54, N27 RSV55
part Q pins: AB10 LDOCAPRAM2, J19 LDOCAPARM, K20 LDOCAPARMRAM, M24 LDOCAPSERDESCLK, T22 LDOCAPRAM1, U9 LDOCAPRAM0, W23 LDOCAPHDVICP, Y24 LDOCAPHDVICPRAM

## DS1232LP
designator IC?, comment Low Power MicroMonitor Chip   Source: DALLAS SEMICONDUCTOR .. 1232lp.pdf
MPN: DS1232LP+; OC_FARNELL: 1187997; OC_NEWARK: 68K3327
footprint DIL08
pins: 1 !PBRST, 2 TD, 3 TOL, 4 GND (power), 5 RST (out), 6 !RST (out), 7 !ST, 8 VCC (power)

## DS1232LPS
designator IC?, comment Low Power MicroMonitor Chip   Source: DALLAS SEMICONDUCTOR .. 1232lp.pdf
MPN: DS1232LPS+; OC_FARNELL: unknown; OC_NEWARK: 99K1954
footprint SO-16DW
pins: 2 !PBRST, 4 TD, 6 TOL, 8 GND (power), 9 RST (out), 11 !RST (out), 13 !ST, 15 VCC (power)

## DS1232LPS-2
designator IC?, comment Low Power MicroMonitor Chip   Source: DALLAS SEMICONDUCTOR .. 1232lp.pdf
MPN: DS1232LPS-2; MF: DALLAS SEMICONDUCTOR; OC_FARNELL: 9724877; OC_NEWARK: 06F4304
footprint SO-08
pins: 1 !PBRST, 2 TD, 3 TOL, 4 GND (power), 5 RST (out), 6 !RST (out), 7 !ST, 8 VCC (power)

## ISO1050DUB
designator IC?, comment ISOLATED CAN TRANSCEIVER   Source: http://focus.ti.com/lit/ds/symlink/iso1050.pdf
MPN: ISO1050DUBR; OC_FARNELL: 1755712; OC_NEWARK: 14R9899
footprint DUB-R-PDSO-G8
pins: 1 VCC1, 2 RXD, 3 TXD, 4 GND1, 5 GND2, 6 CANL, 7 CANH, 8 VCC2

## ISO1176
designator IC?, comment ISOLATED RS-485 PROFIBUS TRANSCEIVER   Source:  Data sheet
MPN: ISO1176DW; OC_FARNELL: 1755037; OC_NEWARK: 13N4111
footprint SO-16DW
pins: 1 VCC1, 2 GND1@1, 3 R, 4 !RE, 5 DE, 6 D, 7 PV, 8 GND1@2, 9 GND2@2, 10 ISODE, 11 NC@2, 12 A, 13 B, 14 NC@1, 15 GND2@1, 16 VCC2

## ISO7220
designator IC?, comment DUAL DIGITAL ISOLATORS   Source: http://focus.ti.com/lit/ds/symlink/iso7221a.pdf
MPN: ISO7220AD; MPN: ISO7220BD; MPN: ISO7220CD; MPN: ISO7220MD; OC_FARNELL: 1390649; OC_NEWARK: 48M0666; OC_FARNELL: 1600638; OC_NEWARK: 94M7887; OC_FARNELL: 1390644; OC_NEWARK: 48M0668; OC_FARNELL: 1390646; OC_NEWARK: 61M6991
footprint SO-08
pins: 1 VCC1 (power), 2 INA, 3 INB, 4 GND1 (power), 5 GND2 (power), 6 OUTB (out), 7 OUTA (out), 8 VCC2 (power)

## ISO7221
designator IC?, comment DUAL DIGITAL ISOLATORS   Source: http://focus.ti.com/lit/ds/symlink/iso7221a.pdf
MPN: ISO7221AD; MPN: ISO7221BD; MPN: ISO7221CD; MPN: ISO7221MD; OC_FARNELL: 1390651; OC_NEWARK: 48M0672; OC_FARNELL: 1600639; OC_NEWARK: 94M7889; OC_FARNELL: 1390645; OC_NEWARK: 61M6993; OC_FARNELL: 1390647; OC_NEWARK: 48M0676
footprint SO-08
pins: 1 VCC1 (power), 2 OUTA (out), 3 INB, 4 GND1 (power), 5 GND2 (power), 6 OUTB (out), 7 INA, 8 VCC2 (power)

## ISO7240
designator IC?, comment HIGH SPEED QUAD DIGITAL ISOLATORS   Source: http://focus.ti.com/lit/ds/symlink/iso7240m.pdf
MPN: ISO7240MDW; OC_FARNELL: 1755124; OC_NEWARK: 58M0385
footprint SO-16DW
pins: 1 VCC1 (power), 2 GND1@1 (power), 3 INA, 4 INB, 5 INC, 6 IND, 7 NC, 8 GND1@2 (power), 9 GND2@2 (power), 10 EN, 11 OUTD (out), 12 OUTC (out), 13 OUTB (out), 14 OUTA (out), 15 GND2@1 (power), 16 VCC2 (power)

## ISO7241
designator IC?, comment HIGH SPEED QUAD DIGITAL ISOLATORS   Source: http://focus.ti.com/lit/ds/symlink/iso7240m.pdf
MPN: ISO7241CDW; OC_FARNELL: 1575372; OC_NEWARK: 73M3155
footprint SO-16DW
pins: 1 VCC1 (power), 2 GND1@1 (power), 3 INA, 4 INB, 5 INC, 6 OUTD (out), 7 EN1, 8 GND1@2 (power), 9 GND2@2 (power), 10 EN2, 11 IND, 12 OUTC (out), 13 OUTB (out), 14 OUTA (out), 15 GND2@1 (power), 16 VCC2 (power)

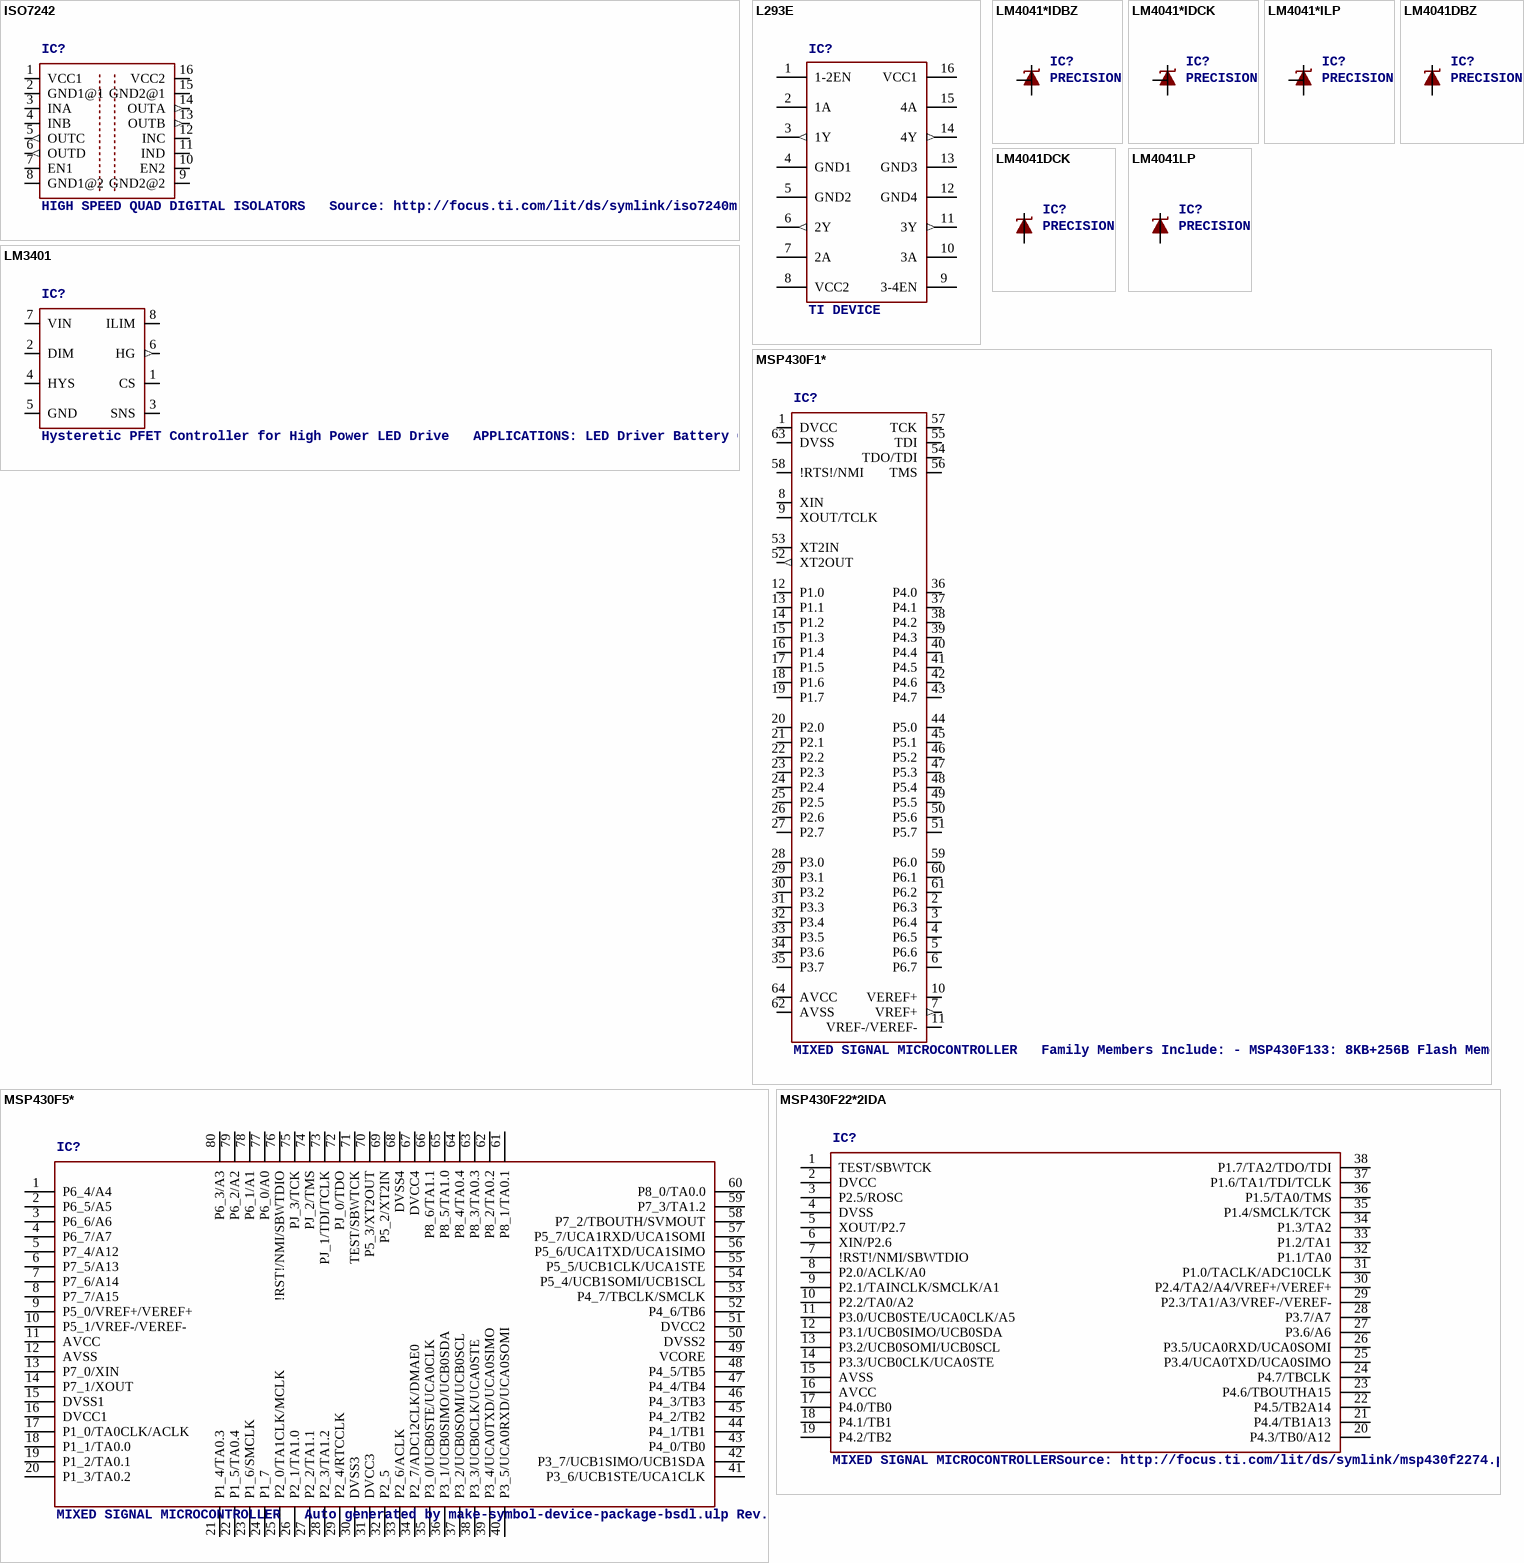
[diagram p9: symbols ISO7242 to MSP430F22*2IDA]

## ISO7242
designator IC?, comment HIGH SPEED QUAD DIGITAL ISOLATORS   Source: http://focus.ti.com/lit/ds/symlink/iso7240m.pdf
MPN: ISO7242MDW; OC_FARNELL: 1755127; OC_NEWARK: 73M3163
footprint SO-16DW
pins: 1 VCC1 (power), 2 GND1@1 (power), 3 INA, 4 INB, 5 OUTC (out), 6 OUTD (out), 7 EN1, 8 GND1@2 (power), 9 GND2@2 (power), 10 EN2, 11 IND, 12 INC, 13 OUTB (out), 14 OUTA (out), 15 GND2@1 (power), 16 VCC2 (power)